# Altium integrated library Renesas Microcontroller R8C.IntLib: 628 symbols (part 18 of 33)
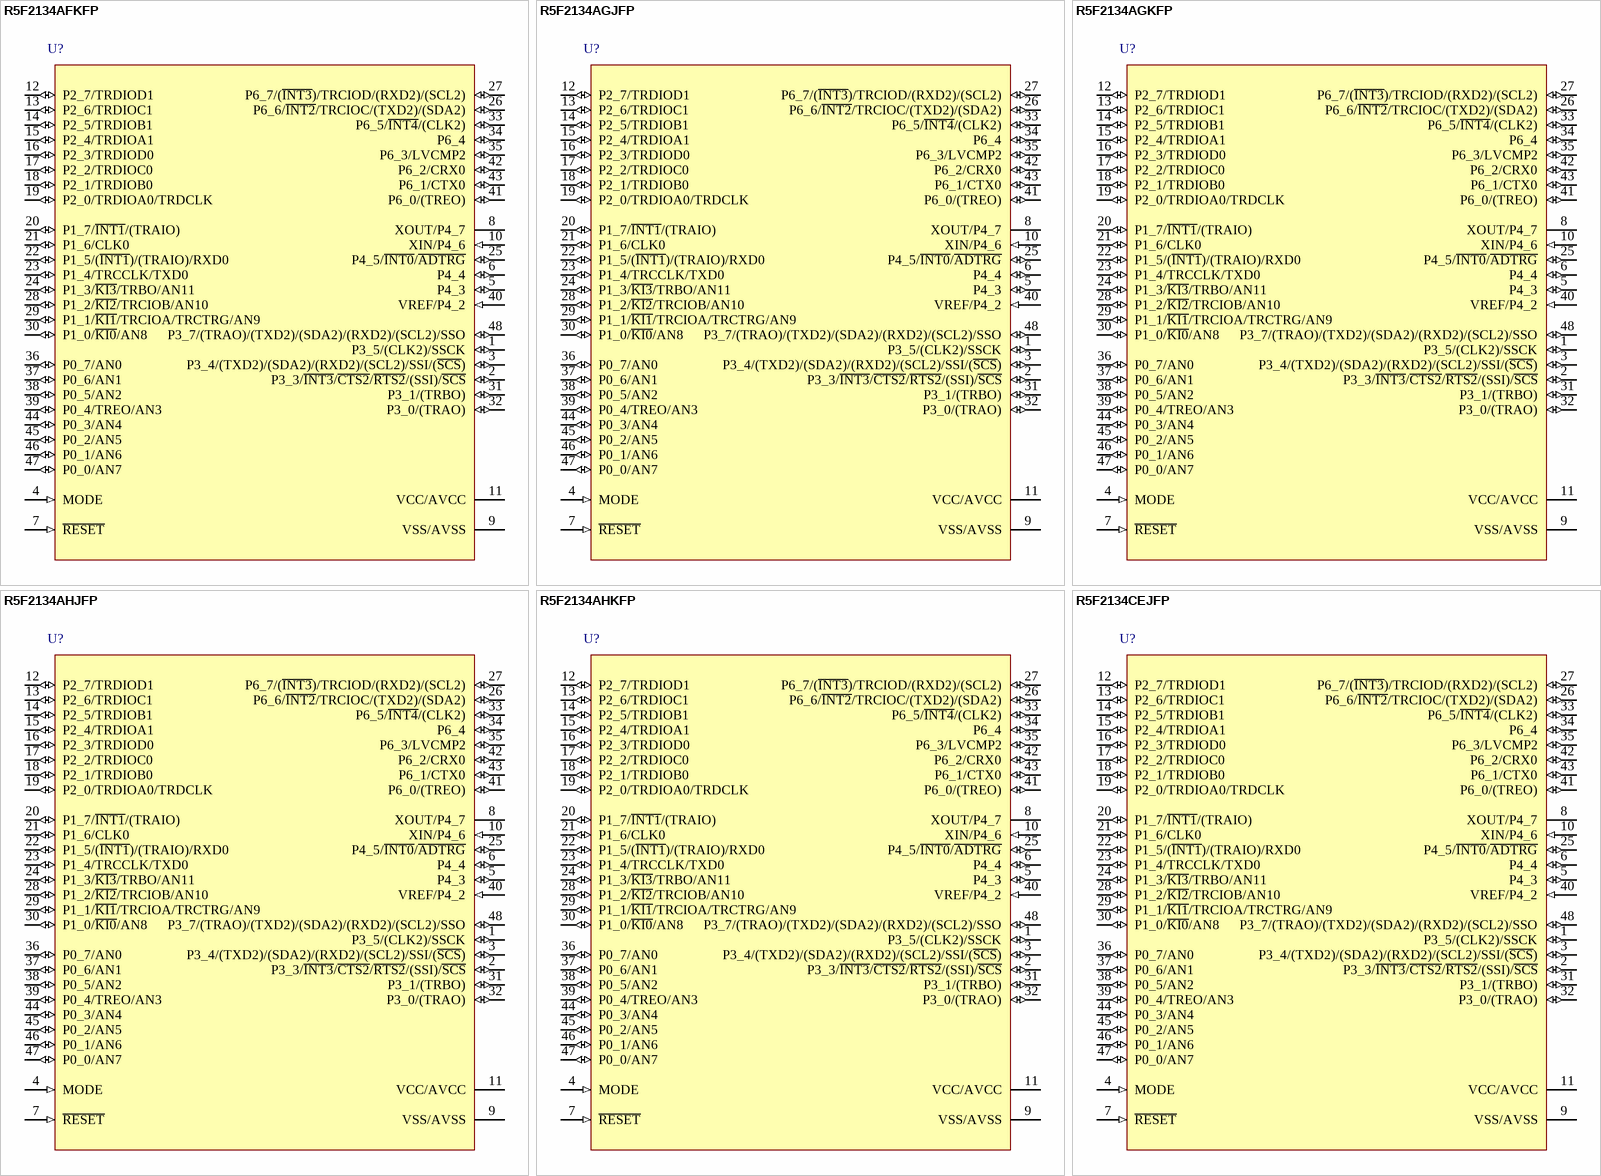
[diagram p133: symbols R5F2134AFKFP to R5F2134CEJFP]

## R5F2134AGJFP
designator U?
R8C/34G Group Single Chip 16-Bit CMOS MCU, 96K ROM + 1K x4 Data Flash, 8K RAM, J Version; Published: 30-Oct-2009; DatasheetVersion: Rev.0.10, Apr-2008; PackageVersion: Oct-2005; PackageReference: PLQP0048KB-A; Publisher: Altium Limited; PackageDescription: 48-Pin Plastic Low Profile QFP, 7 x 7 x 1.4 mm Body, 0.5 mm Pitch; Code_JEITA: P-LQFP48-7x7-0.50; Code_IPC: SQFP50P900X900-48; ComponentLink1Description: Manufacturer Link; ComponentLink1URL: http://sg.renesas.com/fmwk.jsp?cnt=r8c_family_landing.jsp&fp=/products/mpumcu/r8c_family/; ComponentLink2Description: Datasheet; ComponentLink2URL: http://documentation.renesas.com/eng/products/mpumcu/rej03b0246_r8c34ess.pdf; ComponentLink3Description: Packaging Specification; ComponentLink3URL: http://sg.renesas.com/media/products/common_info/package/pdf/ic/code/plqp0048kb_a.pdf
footprint PLQP0048KB-A_N (Shrink QFP, 48-Leads, Body 7x7mm, Pitch 0.5mm, IPC Medium Density)
footprint PLQP0048KB-A_L (Shrink QFP, 48-Leads, Body 7x7mm, Pitch 0.5mm, IPC High Density)
footprint PLQP0048KB-A_M (Shrink QFP, 48-Leads, Body 7x7mm, Pitch 0.5mm, IPC Low Density)
pins: 1 P3_5/(CLK2)/SSCK (io), 2 P3_3/~{INT3}/~{CTS2}/~{RTS2}/(SSI)/~{SCS} (io), 3 P3_4/(TXD2)/(SDA2)/(RXD2)/(SCL2)/SSI/(~{SCS}) (io), 4 MODE (in), 5 P4_3 (io), 6 P4_4 (io), 7 ~{RESET} (in), 8 XOUT/P4_7, 9 VSS/AVSS (power), 10 XIN/P4_6 (in), 11 VCC/AVCC (power), 12 P2_7/TRDIOD1 (io), 13 P2_6/TRDIOC1 (io), 14 P2_5/TRDIOB1 (io), 15 P2_4/TRDIOA1 (io), 16 P2_3/TRDIOD0 (io), 17 P2_2/TRDIOC0 (io), 18 P2_1/TRDIOB0 (io), 19 P2_0/TRDIOA0/TRDCLK (io), 20 P1_7/~{INT1}/(TRAIO) (io), 21 P1_6/CLK0 (io), 22 P1_5/(~{INT1})/(TRAIO)/RXD0 (io), 23 P1_4/TRCCLK/TXD0 (io), 24 P1_3/~{KI3}/TRBO/AN11 (io), 25 P4_5/~{INT0}/~{ADTRG} (io), 26 P6_6/~{INT2}/TRCIOC/(TXD2)/(SDA2) (io), 27 P6_7/(~{INT3})/TRCIOD/(RXD2)/(SCL2) (io), 28 P1_2/~{KI2}/TRCIOB/AN10 (io), 29 P1_1/~{KI1}/TRCIOA/TRCTRG/AN9 (io), 30 P1_0/~{KI0}/AN8 (io), 31 P3_1/(TRBO) (io), 32 P3_0/(TRAO) (io), 33 P6_5/~{INT4}/(CLK2) (io), 34 P6_4 (io), 35 P6_3/LVCMP2 (io), 36 P0_7/AN0 (io), 37 P0_6/AN1 (io), 38 P0_5/AN2 (io), 39 P0_4/TREO/AN3 (io), 40 VREF/P4_2 (in), 41 P6_0/(TREO) (io), 42 P6_2/CRX0 (io), 43 P6_1/CTX0 (io), 44 P0_3/AN4 (io), 45 P0_2/AN5 (io), 46 P0_1/AN6 (io), 47 P0_0/AN7 (io), 48 P3_7/(TRAO)/(TXD2)/(SDA2)/(RXD2)/(SCL2)/SSO (io)

## R5F2134AGKFP
designator U?
R8C/34G Group Single Chip 16-Bit CMOS MCU, 96K ROM + 1K x4 Data Flash, 8K RAM, K Version; Published: 30-Oct-2009; DatasheetVersion: Rev.0.10, Apr-2008; PackageVersion: Oct-2005; PackageReference: PLQP0048KB-A; Publisher: Altium Limited; PackageDescription: 48-Pin Plastic Low Profile QFP, 7 x 7 x 1.4 mm Body, 0.5 mm Pitch; Code_JEITA: P-LQFP48-7x7-0.50; Code_IPC: SQFP50P900X900-48; ComponentLink1Description: Manufacturer Link; ComponentLink1URL: http://sg.renesas.com/fmwk.jsp?cnt=r8c_family_landing.jsp&fp=/products/mpumcu/r8c_family/; ComponentLink2Description: Datasheet; ComponentLink2URL: http://documentation.renesas.com/eng/products/mpumcu/rej03b0246_r8c34ess.pdf; ComponentLink3Description: Packaging Specification; ComponentLink3URL: http://sg.renesas.com/media/products/common_info/package/pdf/ic/code/plqp0048kb_a.pdf
footprint PLQP0048KB-A_N (Shrink QFP, 48-Leads, Body 7x7mm, Pitch 0.5mm, IPC Medium Density)
footprint PLQP0048KB-A_L (Shrink QFP, 48-Leads, Body 7x7mm, Pitch 0.5mm, IPC High Density)
footprint PLQP0048KB-A_M (Shrink QFP, 48-Leads, Body 7x7mm, Pitch 0.5mm, IPC Low Density)
pins: 1 P3_5/(CLK2)/SSCK (io), 2 P3_3/~{INT3}/~{CTS2}/~{RTS2}/(SSI)/~{SCS} (io), 3 P3_4/(TXD2)/(SDA2)/(RXD2)/(SCL2)/SSI/(~{SCS}) (io), 4 MODE (in), 5 P4_3 (io), 6 P4_4 (io), 7 ~{RESET} (in), 8 XOUT/P4_7, 9 VSS/AVSS (power), 10 XIN/P4_6 (in), 11 VCC/AVCC (power), 12 P2_7/TRDIOD1 (io), 13 P2_6/TRDIOC1 (io), 14 P2_5/TRDIOB1 (io), 15 P2_4/TRDIOA1 (io), 16 P2_3/TRDIOD0 (io), 17 P2_2/TRDIOC0 (io), 18 P2_1/TRDIOB0 (io), 19 P2_0/TRDIOA0/TRDCLK (io), 20 P1_7/~{INT1}/(TRAIO) (io), 21 P1_6/CLK0 (io), 22 P1_5/(~{INT1})/(TRAIO)/RXD0 (io), 23 P1_4/TRCCLK/TXD0 (io), 24 P1_3/~{KI3}/TRBO/AN11 (io), 25 P4_5/~{INT0}/~{ADTRG} (io), 26 P6_6/~{INT2}/TRCIOC/(TXD2)/(SDA2) (io), 27 P6_7/(~{INT3})/TRCIOD/(RXD2)/(SCL2) (io), 28 P1_2/~{KI2}/TRCIOB/AN10 (io), 29 P1_1/~{KI1}/TRCIOA/TRCTRG/AN9 (io), 30 P1_0/~{KI0}/AN8 (io), 31 P3_1/(TRBO) (io), 32 P3_0/(TRAO) (io), 33 P6_5/~{INT4}/(CLK2) (io), 34 P6_4 (io), 35 P6_3/LVCMP2 (io), 36 P0_7/AN0 (io), 37 P0_6/AN1 (io), 38 P0_5/AN2 (io), 39 P0_4/TREO/AN3 (io), 40 VREF/P4_2 (in), 41 P6_0/(TREO) (io), 42 P6_2/CRX0 (io), 43 P6_1/CTX0 (io), 44 P0_3/AN4 (io), 45 P0_2/AN5 (io), 46 P0_1/AN6 (io), 47 P0_0/AN7 (io), 48 P3_7/(TRAO)/(TXD2)/(SDA2)/(RXD2)/(SCL2)/SSO (io)

## R5F2134AHJFP
designator U?
R8C/34H Group Single Chip 16-Bit CMOS MCU, 96K ROM, 8K RAM, J Version; Published: 30-Oct-2009; DatasheetVersion: Rev.0.10, Apr-2008; PackageVersion: Oct-2005; PackageReference: PLQP0048KB-A; Publisher: Altium Limited; PackageDescription: 48-Pin Plastic Low Profile QFP, 7 x 7 x 1.4 mm Body, 0.5 mm Pitch; Code_JEITA: P-LQFP48-7x7-0.50; Code_IPC: SQFP50P900X900-48; ComponentLink1Description: Manufacturer Link; ComponentLink1URL: http://sg.renesas.com/fmwk.jsp?cnt=r8c_family_landing.jsp&fp=/products/mpumcu/r8c_family/; ComponentLink2Description: Datasheet; ComponentLink2URL: http://documentation.renesas.com/eng/products/mpumcu/rej03b0246_r8c34ess.pdf; ComponentLink3Description: Packaging Specification; ComponentLink3URL: http://sg.renesas.com/media/products/common_info/package/pdf/ic/code/plqp0048kb_a.pdf
footprint PLQP0048KB-A_N (Shrink QFP, 48-Leads, Body 7x7mm, Pitch 0.5mm, IPC Medium Density)
footprint PLQP0048KB-A_L (Shrink QFP, 48-Leads, Body 7x7mm, Pitch 0.5mm, IPC High Density)
footprint PLQP0048KB-A_M (Shrink QFP, 48-Leads, Body 7x7mm, Pitch 0.5mm, IPC Low Density)
pins: 1 P3_5/(CLK2)/SSCK (io), 2 P3_3/~{INT3}/~{CTS2}/~{RTS2}/(SSI)/~{SCS} (io), 3 P3_4/(TXD2)/(SDA2)/(RXD2)/(SCL2)/SSI/(~{SCS}) (io), 4 MODE (in), 5 P4_3 (io), 6 P4_4 (io), 7 ~{RESET} (in), 8 XOUT/P4_7, 9 VSS/AVSS (power), 10 XIN/P4_6 (in), 11 VCC/AVCC (power), 12 P2_7/TRDIOD1 (io), 13 P2_6/TRDIOC1 (io), 14 P2_5/TRDIOB1 (io), 15 P2_4/TRDIOA1 (io), 16 P2_3/TRDIOD0 (io), 17 P2_2/TRDIOC0 (io), 18 P2_1/TRDIOB0 (io), 19 P2_0/TRDIOA0/TRDCLK (io), 20 P1_7/~{INT1}/(TRAIO) (io), 21 P1_6/CLK0 (io), 22 P1_5/(~{INT1})/(TRAIO)/RXD0 (io), 23 P1_4/TRCCLK/TXD0 (io), 24 P1_3/~{KI3}/TRBO/AN11 (io), 25 P4_5/~{INT0}/~{ADTRG} (io), 26 P6_6/~{INT2}/TRCIOC/(TXD2)/(SDA2) (io), 27 P6_7/(~{INT3})/TRCIOD/(RXD2)/(SCL2) (io), 28 P1_2/~{KI2}/TRCIOB/AN10 (io), 29 P1_1/~{KI1}/TRCIOA/TRCTRG/AN9 (io), 30 P1_0/~{KI0}/AN8 (io), 31 P3_1/(TRBO) (io), 32 P3_0/(TRAO) (io), 33 P6_5/~{INT4}/(CLK2) (io), 34 P6_4 (io), 35 P6_3/LVCMP2 (io), 36 P0_7/AN0 (io), 37 P0_6/AN1 (io), 38 P0_5/AN2 (io), 39 P0_4/TREO/AN3 (io), 40 VREF/P4_2 (in), 41 P6_0/(TREO) (io), 42 P6_2/CRX0 (io), 43 P6_1/CTX0 (io), 44 P0_3/AN4 (io), 45 P0_2/AN5 (io), 46 P0_1/AN6 (io), 47 P0_0/AN7 (io), 48 P3_7/(TRAO)/(TXD2)/(SDA2)/(RXD2)/(SCL2)/SSO (io)

## R5F2134AHKFP
designator U?
R8C/34H Group Single Chip 16-Bit CMOS MCU, 96K ROM, 8K RAM, K Version; Published: 30-Oct-2009; DatasheetVersion: Rev.0.10, Apr-2008; PackageVersion: Oct-2005; PackageReference: PLQP0048KB-A; Publisher: Altium Limited; PackageDescription: 48-Pin Plastic Low Profile QFP, 7 x 7 x 1.4 mm Body, 0.5 mm Pitch; Code_JEITA: P-LQFP48-7x7-0.50; Code_IPC: SQFP50P900X900-48; ComponentLink1Description: Manufacturer Link; ComponentLink1URL: http://sg.renesas.com/fmwk.jsp?cnt=r8c_family_landing.jsp&fp=/products/mpumcu/r8c_family/; ComponentLink2Description: Datasheet; ComponentLink2URL: http://documentation.renesas.com/eng/products/mpumcu/rej03b0246_r8c34ess.pdf; ComponentLink3Description: Packaging Specification; ComponentLink3URL: http://sg.renesas.com/media/products/common_info/package/pdf/ic/code/plqp0048kb_a.pdf
footprint PLQP0048KB-A_N (Shrink QFP, 48-Leads, Body 7x7mm, Pitch 0.5mm, IPC Medium Density)
footprint PLQP0048KB-A_L (Shrink QFP, 48-Leads, Body 7x7mm, Pitch 0.5mm, IPC High Density)
footprint PLQP0048KB-A_M (Shrink QFP, 48-Leads, Body 7x7mm, Pitch 0.5mm, IPC Low Density)
pins: 1 P3_5/(CLK2)/SSCK (io), 2 P3_3/~{INT3}/~{CTS2}/~{RTS2}/(SSI)/~{SCS} (io), 3 P3_4/(TXD2)/(SDA2)/(RXD2)/(SCL2)/SSI/(~{SCS}) (io), 4 MODE (in), 5 P4_3 (io), 6 P4_4 (io), 7 ~{RESET} (in), 8 XOUT/P4_7, 9 VSS/AVSS (power), 10 XIN/P4_6 (in), 11 VCC/AVCC (power), 12 P2_7/TRDIOD1 (io), 13 P2_6/TRDIOC1 (io), 14 P2_5/TRDIOB1 (io), 15 P2_4/TRDIOA1 (io), 16 P2_3/TRDIOD0 (io), 17 P2_2/TRDIOC0 (io), 18 P2_1/TRDIOB0 (io), 19 P2_0/TRDIOA0/TRDCLK (io), 20 P1_7/~{INT1}/(TRAIO) (io), 21 P1_6/CLK0 (io), 22 P1_5/(~{INT1})/(TRAIO)/RXD0 (io), 23 P1_4/TRCCLK/TXD0 (io), 24 P1_3/~{KI3}/TRBO/AN11 (io), 25 P4_5/~{INT0}/~{ADTRG} (io), 26 P6_6/~{INT2}/TRCIOC/(TXD2)/(SDA2) (io), 27 P6_7/(~{INT3})/TRCIOD/(RXD2)/(SCL2) (io), 28 P1_2/~{KI2}/TRCIOB/AN10 (io), 29 P1_1/~{KI1}/TRCIOA/TRCTRG/AN9 (io), 30 P1_0/~{KI0}/AN8 (io), 31 P3_1/(TRBO) (io), 32 P3_0/(TRAO) (io), 33 P6_5/~{INT4}/(CLK2) (io), 34 P6_4 (io), 35 P6_3/LVCMP2 (io), 36 P0_7/AN0 (io), 37 P0_6/AN1 (io), 38 P0_5/AN2 (io), 39 P0_4/TREO/AN3 (io), 40 VREF/P4_2 (in), 41 P6_0/(TREO) (io), 42 P6_2/CRX0 (io), 43 P6_1/CTX0 (io), 44 P0_3/AN4 (io), 45 P0_2/AN5 (io), 46 P0_1/AN6 (io), 47 P0_0/AN7 (io), 48 P3_7/(TRAO)/(TXD2)/(SDA2)/(RXD2)/(SCL2)/SSO (io)

## R5F2134CEJFP
designator U?
R8C/34E Group Single Chip 16-Bit CMOS MCU, 128K ROM + 1K x4 Data Flash, 10K RAM, J Version; Published: 30-Oct-2009; DatasheetVersion: Rev.0.10, Apr-2008; PackageVersion: Oct-2005; PackageReference: PLQP0048KB-A; Publisher: Altium Limited; PackageDescription: 48-Pin Plastic Low Profile QFP, 7 x 7 x 1.4 mm Body, 0.5 mm Pitch; Code_JEITA: P-LQFP48-7x7-0.50; Code_IPC: SQFP50P900X900-48; ComponentLink1Description: Manufacturer Link; ComponentLink1URL: http://sg.renesas.com/fmwk.jsp?cnt=r8c_family_landing.jsp&fp=/products/mpumcu/r8c_family/; ComponentLink2Description: Datasheet; ComponentLink2URL: http://documentation.renesas.com/eng/products/mpumcu/rej03b0246_r8c34ess.pdf; ComponentLink3Description: Packaging Specification; ComponentLink3URL: http://sg.renesas.com/media/products/common_info/package/pdf/ic/code/plqp0048kb_a.pdf
footprint PLQP0048KB-A_N (Shrink QFP, 48-Leads, Body 7x7mm, Pitch 0.5mm, IPC Medium Density)
footprint PLQP0048KB-A_L (Shrink QFP, 48-Leads, Body 7x7mm, Pitch 0.5mm, IPC High Density)
footprint PLQP0048KB-A_M (Shrink QFP, 48-Leads, Body 7x7mm, Pitch 0.5mm, IPC Low Density)
pins: 1 P3_5/(CLK2)/SSCK (io), 2 P3_3/~{INT3}/~{CTS2}/~{RTS2}/(SSI)/~{SCS} (io), 3 P3_4/(TXD2)/(SDA2)/(RXD2)/(SCL2)/SSI/(~{SCS}) (io), 4 MODE (in), 5 P4_3 (io), 6 P4_4 (io), 7 ~{RESET} (in), 8 XOUT/P4_7, 9 VSS/AVSS (power), 10 XIN/P4_6 (in), 11 VCC/AVCC (power), 12 P2_7/TRDIOD1 (io), 13 P2_6/TRDIOC1 (io), 14 P2_5/TRDIOB1 (io), 15 P2_4/TRDIOA1 (io), 16 P2_3/TRDIOD0 (io), 17 P2_2/TRDIOC0 (io), 18 P2_1/TRDIOB0 (io), 19 P2_0/TRDIOA0/TRDCLK (io), 20 P1_7/~{INT1}/(TRAIO) (io), 21 P1_6/CLK0 (io), 22 P1_5/(~{INT1})/(TRAIO)/RXD0 (io), 23 P1_4/TRCCLK/TXD0 (io), 24 P1_3/~{KI3}/TRBO/AN11 (io), 25 P4_5/~{INT0}/~{ADTRG} (io), 26 P6_6/~{INT2}/TRCIOC/(TXD2)/(SDA2) (io), 27 P6_7/(~{INT3})/TRCIOD/(RXD2)/(SCL2) (io), 28 P1_2/~{KI2}/TRCIOB/AN10 (io), 29 P1_1/~{KI1}/TRCIOA/TRCTRG/AN9 (io), 30 P1_0/~{KI0}/AN8 (io), 31 P3_1/(TRBO) (io), 32 P3_0/(TRAO) (io), 33 P6_5/~{INT4}/(CLK2) (io), 34 P6_4 (io), 35 P6_3/LVCMP2 (io), 36 P0_7/AN0 (io), 37 P0_6/AN1 (io), 38 P0_5/AN2 (io), 39 P0_4/TREO/AN3 (io), 40 VREF/P4_2 (in), 41 P6_0/(TREO) (io), 42 P6_2/CRX0 (io), 43 P6_1/CTX0 (io), 44 P0_3/AN4 (io), 45 P0_2/AN5 (io), 46 P0_1/AN6 (io), 47 P0_0/AN7 (io), 48 P3_7/(TRAO)/(TXD2)/(SDA2)/(RXD2)/(SCL2)/SSO (io)

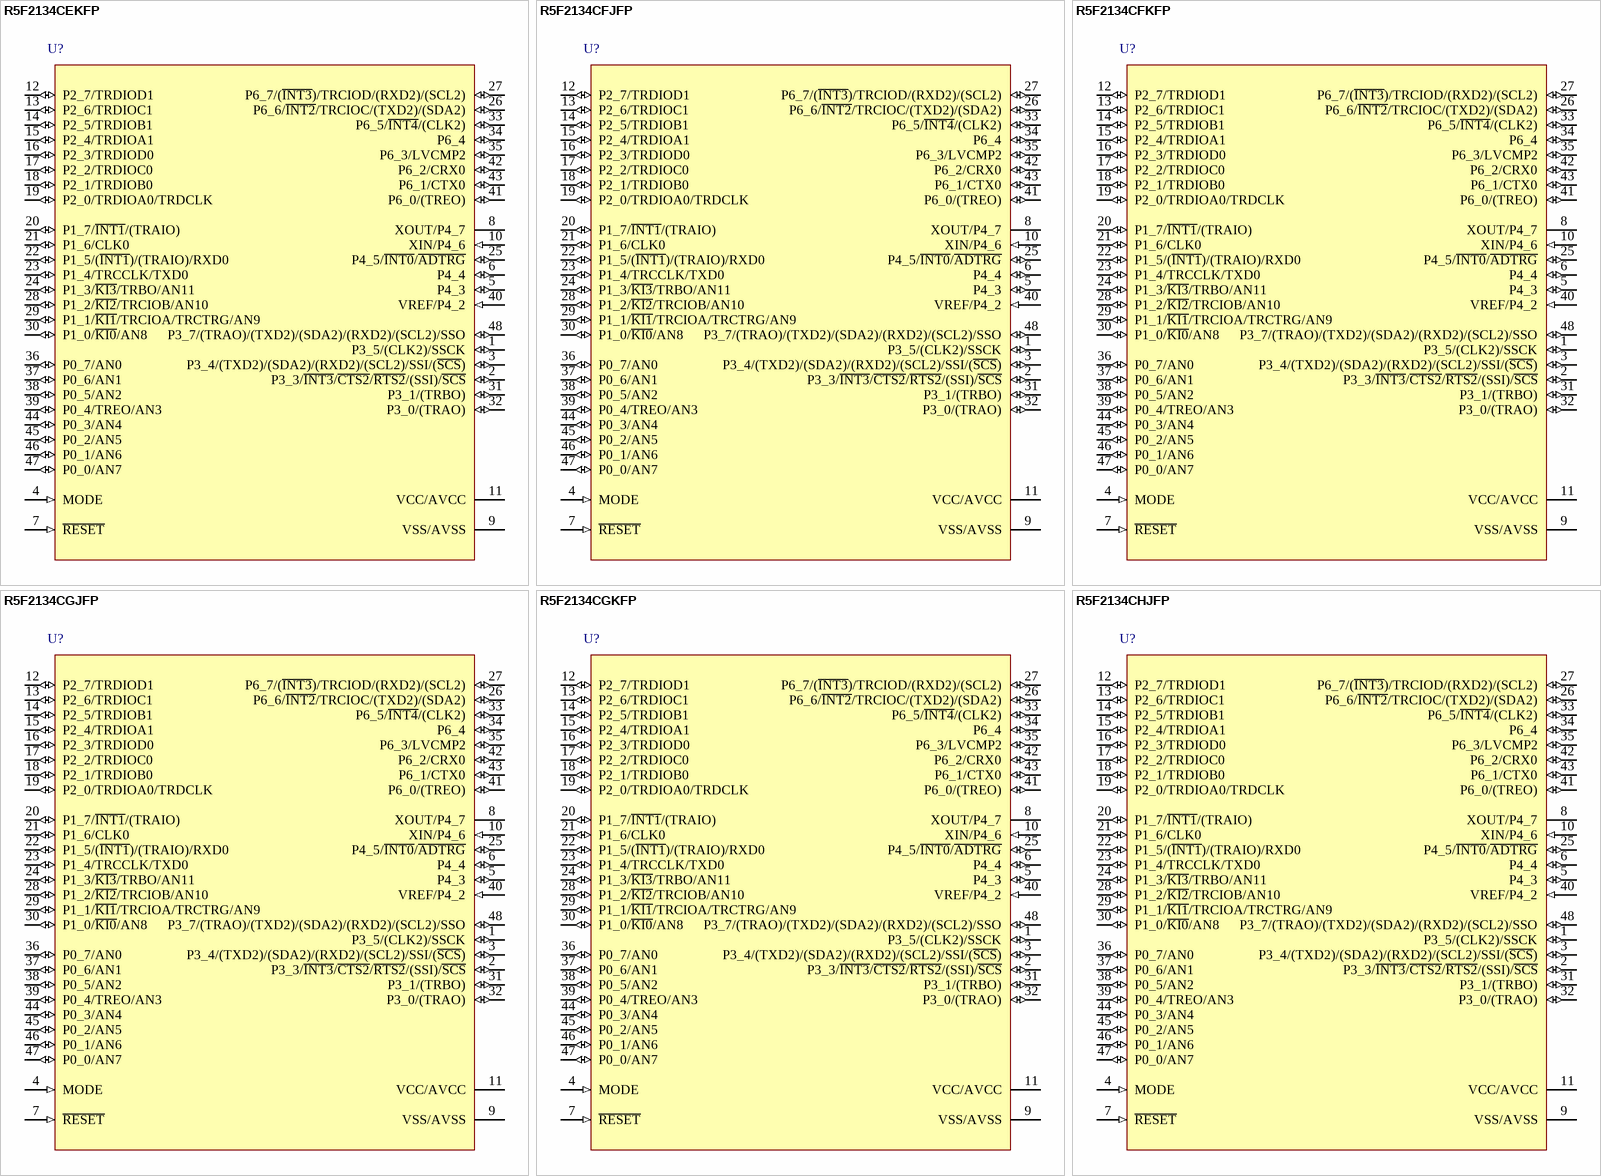
[diagram p61: symbols R5F2134CEKFP to R5F2134CHJFP]

## R5F2134CEKFP
designator U?
R8C/34E Group Single Chip 16-Bit CMOS MCU, 128K ROM + 1K x4 Data Flash, 10K RAM, K Version; Published: 30-Oct-2009; DatasheetVersion: Rev.0.10, Apr-2008; PackageVersion: Oct-2005; PackageReference: PLQP0048KB-A; Publisher: Altium Limited; PackageDescription: 48-Pin Plastic Low Profile QFP, 7 x 7 x 1.4 mm Body, 0.5 mm Pitch; Code_JEITA: P-LQFP48-7x7-0.50; Code_IPC: SQFP50P900X900-48; ComponentLink1Description: Manufacturer Link; ComponentLink1URL: http://sg.renesas.com/fmwk.jsp?cnt=r8c_family_landing.jsp&fp=/products/mpumcu/r8c_family/; ComponentLink2Description: Datasheet; ComponentLink2URL: http://documentation.renesas.com/eng/products/mpumcu/rej03b0246_r8c34ess.pdf; ComponentLink3Description: Packaging Specification; ComponentLink3URL: http://sg.renesas.com/media/products/common_info/package/pdf/ic/code/plqp0048kb_a.pdf
footprint PLQP0048KB-A_N (Shrink QFP, 48-Leads, Body 7x7mm, Pitch 0.5mm, IPC Medium Density)
footprint PLQP0048KB-A_L (Shrink QFP, 48-Leads, Body 7x7mm, Pitch 0.5mm, IPC High Density)
footprint PLQP0048KB-A_M (Shrink QFP, 48-Leads, Body 7x7mm, Pitch 0.5mm, IPC Low Density)
pins: 1 P3_5/(CLK2)/SSCK (io), 2 P3_3/~{INT3}/~{CTS2}/~{RTS2}/(SSI)/~{SCS} (io), 3 P3_4/(TXD2)/(SDA2)/(RXD2)/(SCL2)/SSI/(~{SCS}) (io), 4 MODE (in), 5 P4_3 (io), 6 P4_4 (io), 7 ~{RESET} (in), 8 XOUT/P4_7, 9 VSS/AVSS (power), 10 XIN/P4_6 (in), 11 VCC/AVCC (power), 12 P2_7/TRDIOD1 (io), 13 P2_6/TRDIOC1 (io), 14 P2_5/TRDIOB1 (io), 15 P2_4/TRDIOA1 (io), 16 P2_3/TRDIOD0 (io), 17 P2_2/TRDIOC0 (io), 18 P2_1/TRDIOB0 (io), 19 P2_0/TRDIOA0/TRDCLK (io), 20 P1_7/~{INT1}/(TRAIO) (io), 21 P1_6/CLK0 (io), 22 P1_5/(~{INT1})/(TRAIO)/RXD0 (io), 23 P1_4/TRCCLK/TXD0 (io), 24 P1_3/~{KI3}/TRBO/AN11 (io), 25 P4_5/~{INT0}/~{ADTRG} (io), 26 P6_6/~{INT2}/TRCIOC/(TXD2)/(SDA2) (io), 27 P6_7/(~{INT3})/TRCIOD/(RXD2)/(SCL2) (io), 28 P1_2/~{KI2}/TRCIOB/AN10 (io), 29 P1_1/~{KI1}/TRCIOA/TRCTRG/AN9 (io), 30 P1_0/~{KI0}/AN8 (io), 31 P3_1/(TRBO) (io), 32 P3_0/(TRAO) (io), 33 P6_5/~{INT4}/(CLK2) (io), 34 P6_4 (io), 35 P6_3/LVCMP2 (io), 36 P0_7/AN0 (io), 37 P0_6/AN1 (io), 38 P0_5/AN2 (io), 39 P0_4/TREO/AN3 (io), 40 VREF/P4_2 (in), 41 P6_0/(TREO) (io), 42 P6_2/CRX0 (io), 43 P6_1/CTX0 (io), 44 P0_3/AN4 (io), 45 P0_2/AN5 (io), 46 P0_1/AN6 (io), 47 P0_0/AN7 (io), 48 P3_7/(TRAO)/(TXD2)/(SDA2)/(RXD2)/(SCL2)/SSO (io)

## R5F2134CFJFP
designator U?
R8C/34F Group Single Chip 16-Bit CMOS MCU, 128K ROM, 10K RAM, J Version; Published: 30-Oct-2009; DatasheetVersion: Rev.0.10, Apr-2008; PackageVersion: Oct-2005; PackageReference: PLQP0048KB-A; Publisher: Altium Limited; PackageDescription: 48-Pin Plastic Low Profile QFP, 7 x 7 x 1.4 mm Body, 0.5 mm Pitch; Code_JEITA: P-LQFP48-7x7-0.50; Code_IPC: SQFP50P900X900-48; ComponentLink1Description: Manufacturer Link; ComponentLink1URL: http://sg.renesas.com/fmwk.jsp?cnt=r8c_family_landing.jsp&fp=/products/mpumcu/r8c_family/; ComponentLink2Description: Datasheet; ComponentLink2URL: http://documentation.renesas.com/eng/products/mpumcu/rej03b0246_r8c34ess.pdf; ComponentLink3Description: Packaging Specification; ComponentLink3URL: http://sg.renesas.com/media/products/common_info/package/pdf/ic/code/plqp0048kb_a.pdf
footprint PLQP0048KB-A_N (Shrink QFP, 48-Leads, Body 7x7mm, Pitch 0.5mm, IPC Medium Density)
footprint PLQP0048KB-A_L (Shrink QFP, 48-Leads, Body 7x7mm, Pitch 0.5mm, IPC High Density)
footprint PLQP0048KB-A_M (Shrink QFP, 48-Leads, Body 7x7mm, Pitch 0.5mm, IPC Low Density)
pins: 1 P3_5/(CLK2)/SSCK (io), 2 P3_3/~{INT3}/~{CTS2}/~{RTS2}/(SSI)/~{SCS} (io), 3 P3_4/(TXD2)/(SDA2)/(RXD2)/(SCL2)/SSI/(~{SCS}) (io), 4 MODE (in), 5 P4_3 (io), 6 P4_4 (io), 7 ~{RESET} (in), 8 XOUT/P4_7, 9 VSS/AVSS (power), 10 XIN/P4_6 (in), 11 VCC/AVCC (power), 12 P2_7/TRDIOD1 (io), 13 P2_6/TRDIOC1 (io), 14 P2_5/TRDIOB1 (io), 15 P2_4/TRDIOA1 (io), 16 P2_3/TRDIOD0 (io), 17 P2_2/TRDIOC0 (io), 18 P2_1/TRDIOB0 (io), 19 P2_0/TRDIOA0/TRDCLK (io), 20 P1_7/~{INT1}/(TRAIO) (io), 21 P1_6/CLK0 (io), 22 P1_5/(~{INT1})/(TRAIO)/RXD0 (io), 23 P1_4/TRCCLK/TXD0 (io), 24 P1_3/~{KI3}/TRBO/AN11 (io), 25 P4_5/~{INT0}/~{ADTRG} (io), 26 P6_6/~{INT2}/TRCIOC/(TXD2)/(SDA2) (io), 27 P6_7/(~{INT3})/TRCIOD/(RXD2)/(SCL2) (io), 28 P1_2/~{KI2}/TRCIOB/AN10 (io), 29 P1_1/~{KI1}/TRCIOA/TRCTRG/AN9 (io), 30 P1_0/~{KI0}/AN8 (io), 31 P3_1/(TRBO) (io), 32 P3_0/(TRAO) (io), 33 P6_5/~{INT4}/(CLK2) (io), 34 P6_4 (io), 35 P6_3/LVCMP2 (io), 36 P0_7/AN0 (io), 37 P0_6/AN1 (io), 38 P0_5/AN2 (io), 39 P0_4/TREO/AN3 (io), 40 VREF/P4_2 (in), 41 P6_0/(TREO) (io), 42 P6_2/CRX0 (io), 43 P6_1/CTX0 (io), 44 P0_3/AN4 (io), 45 P0_2/AN5 (io), 46 P0_1/AN6 (io), 47 P0_0/AN7 (io), 48 P3_7/(TRAO)/(TXD2)/(SDA2)/(RXD2)/(SCL2)/SSO (io)

## R5F2134CFKFP
designator U?
R8C/34F Group Single Chip 16-Bit CMOS MCU, 128K ROM, 10K RAM, K Version; Published: 30-Oct-2009; DatasheetVersion: Rev.0.10, Apr-2008; PackageVersion: Oct-2005; PackageReference: PLQP0048KB-A; Publisher: Altium Limited; PackageDescription: 48-Pin Plastic Low Profile QFP, 7 x 7 x 1.4 mm Body, 0.5 mm Pitch; Code_JEITA: P-LQFP48-7x7-0.50; Code_IPC: SQFP50P900X900-48; ComponentLink1Description: Manufacturer Link; ComponentLink1URL: http://sg.renesas.com/fmwk.jsp?cnt=r8c_family_landing.jsp&fp=/products/mpumcu/r8c_family/; ComponentLink2Description: Datasheet; ComponentLink2URL: http://documentation.renesas.com/eng/products/mpumcu/rej03b0246_r8c34ess.pdf; ComponentLink3Description: Packaging Specification; ComponentLink3URL: http://sg.renesas.com/media/products/common_info/package/pdf/ic/code/plqp0048kb_a.pdf
footprint PLQP0048KB-A_N (Shrink QFP, 48-Leads, Body 7x7mm, Pitch 0.5mm, IPC Medium Density)
footprint PLQP0048KB-A_L (Shrink QFP, 48-Leads, Body 7x7mm, Pitch 0.5mm, IPC High Density)
footprint PLQP0048KB-A_M (Shrink QFP, 48-Leads, Body 7x7mm, Pitch 0.5mm, IPC Low Density)
pins: 1 P3_5/(CLK2)/SSCK (io), 2 P3_3/~{INT3}/~{CTS2}/~{RTS2}/(SSI)/~{SCS} (io), 3 P3_4/(TXD2)/(SDA2)/(RXD2)/(SCL2)/SSI/(~{SCS}) (io), 4 MODE (in), 5 P4_3 (io), 6 P4_4 (io), 7 ~{RESET} (in), 8 XOUT/P4_7, 9 VSS/AVSS (power), 10 XIN/P4_6 (in), 11 VCC/AVCC (power), 12 P2_7/TRDIOD1 (io), 13 P2_6/TRDIOC1 (io), 14 P2_5/TRDIOB1 (io), 15 P2_4/TRDIOA1 (io), 16 P2_3/TRDIOD0 (io), 17 P2_2/TRDIOC0 (io), 18 P2_1/TRDIOB0 (io), 19 P2_0/TRDIOA0/TRDCLK (io), 20 P1_7/~{INT1}/(TRAIO) (io), 21 P1_6/CLK0 (io), 22 P1_5/(~{INT1})/(TRAIO)/RXD0 (io), 23 P1_4/TRCCLK/TXD0 (io), 24 P1_3/~{KI3}/TRBO/AN11 (io), 25 P4_5/~{INT0}/~{ADTRG} (io), 26 P6_6/~{INT2}/TRCIOC/(TXD2)/(SDA2) (io), 27 P6_7/(~{INT3})/TRCIOD/(RXD2)/(SCL2) (io), 28 P1_2/~{KI2}/TRCIOB/AN10 (io), 29 P1_1/~{KI1}/TRCIOA/TRCTRG/AN9 (io), 30 P1_0/~{KI0}/AN8 (io), 31 P3_1/(TRBO) (io), 32 P3_0/(TRAO) (io), 33 P6_5/~{INT4}/(CLK2) (io), 34 P6_4 (io), 35 P6_3/LVCMP2 (io), 36 P0_7/AN0 (io), 37 P0_6/AN1 (io), 38 P0_5/AN2 (io), 39 P0_4/TREO/AN3 (io), 40 VREF/P4_2 (in), 41 P6_0/(TREO) (io), 42 P6_2/CRX0 (io), 43 P6_1/CTX0 (io), 44 P0_3/AN4 (io), 45 P0_2/AN5 (io), 46 P0_1/AN6 (io), 47 P0_0/AN7 (io), 48 P3_7/(TRAO)/(TXD2)/(SDA2)/(RXD2)/(SCL2)/SSO (io)

## R5F2134CGJFP
designator U?
R8C/34G Group Single Chip 16-Bit CMOS MCU, 128K ROM + 1K x4 Data Flash, 10K RAM, J Version; Published: 30-Oct-2009; DatasheetVersion: Rev.0.10, Apr-2008; PackageVersion: Oct-2005; PackageReference: PLQP0048KB-A; Publisher: Altium Limited; PackageDescription: 48-Pin Plastic Low Profile QFP, 7 x 7 x 1.4 mm Body, 0.5 mm Pitch; Code_JEITA: P-LQFP48-7x7-0.50; Code_IPC: SQFP50P900X900-48; ComponentLink1Description: Manufacturer Link; ComponentLink1URL: http://sg.renesas.com/fmwk.jsp?cnt=r8c_family_landing.jsp&fp=/products/mpumcu/r8c_family/; ComponentLink2Description: Datasheet; ComponentLink2URL: http://documentation.renesas.com/eng/products/mpumcu/rej03b0246_r8c34ess.pdf; ComponentLink3Description: Packaging Specification; ComponentLink3URL: http://sg.renesas.com/media/products/common_info/package/pdf/ic/code/plqp0048kb_a.pdf
footprint PLQP0048KB-A_N (Shrink QFP, 48-Leads, Body 7x7mm, Pitch 0.5mm, IPC Medium Density)
footprint PLQP0048KB-A_L (Shrink QFP, 48-Leads, Body 7x7mm, Pitch 0.5mm, IPC High Density)
footprint PLQP0048KB-A_M (Shrink QFP, 48-Leads, Body 7x7mm, Pitch 0.5mm, IPC Low Density)
pins: 1 P3_5/(CLK2)/SSCK (io), 2 P3_3/~{INT3}/~{CTS2}/~{RTS2}/(SSI)/~{SCS} (io), 3 P3_4/(TXD2)/(SDA2)/(RXD2)/(SCL2)/SSI/(~{SCS}) (io), 4 MODE (in), 5 P4_3 (io), 6 P4_4 (io), 7 ~{RESET} (in), 8 XOUT/P4_7, 9 VSS/AVSS (power), 10 XIN/P4_6 (in), 11 VCC/AVCC (power), 12 P2_7/TRDIOD1 (io), 13 P2_6/TRDIOC1 (io), 14 P2_5/TRDIOB1 (io), 15 P2_4/TRDIOA1 (io), 16 P2_3/TRDIOD0 (io), 17 P2_2/TRDIOC0 (io), 18 P2_1/TRDIOB0 (io), 19 P2_0/TRDIOA0/TRDCLK (io), 20 P1_7/~{INT1}/(TRAIO) (io), 21 P1_6/CLK0 (io), 22 P1_5/(~{INT1})/(TRAIO)/RXD0 (io), 23 P1_4/TRCCLK/TXD0 (io), 24 P1_3/~{KI3}/TRBO/AN11 (io), 25 P4_5/~{INT0}/~{ADTRG} (io), 26 P6_6/~{INT2}/TRCIOC/(TXD2)/(SDA2) (io), 27 P6_7/(~{INT3})/TRCIOD/(RXD2)/(SCL2) (io), 28 P1_2/~{KI2}/TRCIOB/AN10 (io), 29 P1_1/~{KI1}/TRCIOA/TRCTRG/AN9 (io), 30 P1_0/~{KI0}/AN8 (io), 31 P3_1/(TRBO) (io), 32 P3_0/(TRAO) (io), 33 P6_5/~{INT4}/(CLK2) (io), 34 P6_4 (io), 35 P6_3/LVCMP2 (io), 36 P0_7/AN0 (io), 37 P0_6/AN1 (io), 38 P0_5/AN2 (io), 39 P0_4/TREO/AN3 (io), 40 VREF/P4_2 (in), 41 P6_0/(TREO) (io), 42 P6_2/CRX0 (io), 43 P6_1/CTX0 (io), 44 P0_3/AN4 (io), 45 P0_2/AN5 (io), 46 P0_1/AN6 (io), 47 P0_0/AN7 (io), 48 P3_7/(TRAO)/(TXD2)/(SDA2)/(RXD2)/(SCL2)/SSO (io)

## R5F2134CGKFP
designator U?
R8C/34G Group Single Chip 16-Bit CMOS MCU, 128K ROM + 1K x4 Data Flash, 10K RAM, K Version; Published: 30-Oct-2009; DatasheetVersion: Rev.0.10, Apr-2008; PackageVersion: Oct-2005; PackageReference: PLQP0048KB-A; Publisher: Altium Limited; PackageDescription: 48-Pin Plastic Low Profile QFP, 7 x 7 x 1.4 mm Body, 0.5 mm Pitch; Code_JEITA: P-LQFP48-7x7-0.50; Code_IPC: SQFP50P900X900-48; ComponentLink1Description: Manufacturer Link; ComponentLink1URL: http://sg.renesas.com/fmwk.jsp?cnt=r8c_family_landing.jsp&fp=/products/mpumcu/r8c_family/; ComponentLink2Description: Datasheet; ComponentLink2URL: http://documentation.renesas.com/eng/products/mpumcu/rej03b0246_r8c34ess.pdf; ComponentLink3Description: Packaging Specification; ComponentLink3URL: http://sg.renesas.com/media/products/common_info/package/pdf/ic/code/plqp0048kb_a.pdf
footprint PLQP0048KB-A_N (Shrink QFP, 48-Leads, Body 7x7mm, Pitch 0.5mm, IPC Medium Density)
footprint PLQP0048KB-A_L (Shrink QFP, 48-Leads, Body 7x7mm, Pitch 0.5mm, IPC High Density)
footprint PLQP0048KB-A_M (Shrink QFP, 48-Leads, Body 7x7mm, Pitch 0.5mm, IPC Low Density)
pins: 1 P3_5/(CLK2)/SSCK (io), 2 P3_3/~{INT3}/~{CTS2}/~{RTS2}/(SSI)/~{SCS} (io), 3 P3_4/(TXD2)/(SDA2)/(RXD2)/(SCL2)/SSI/(~{SCS}) (io), 4 MODE (in), 5 P4_3 (io), 6 P4_4 (io), 7 ~{RESET} (in), 8 XOUT/P4_7, 9 VSS/AVSS (power), 10 XIN/P4_6 (in), 11 VCC/AVCC (power), 12 P2_7/TRDIOD1 (io), 13 P2_6/TRDIOC1 (io), 14 P2_5/TRDIOB1 (io), 15 P2_4/TRDIOA1 (io), 16 P2_3/TRDIOD0 (io), 17 P2_2/TRDIOC0 (io), 18 P2_1/TRDIOB0 (io), 19 P2_0/TRDIOA0/TRDCLK (io), 20 P1_7/~{INT1}/(TRAIO) (io), 21 P1_6/CLK0 (io), 22 P1_5/(~{INT1})/(TRAIO)/RXD0 (io), 23 P1_4/TRCCLK/TXD0 (io), 24 P1_3/~{KI3}/TRBO/AN11 (io), 25 P4_5/~{INT0}/~{ADTRG} (io), 26 P6_6/~{INT2}/TRCIOC/(TXD2)/(SDA2) (io), 27 P6_7/(~{INT3})/TRCIOD/(RXD2)/(SCL2) (io), 28 P1_2/~{KI2}/TRCIOB/AN10 (io), 29 P1_1/~{KI1}/TRCIOA/TRCTRG/AN9 (io), 30 P1_0/~{KI0}/AN8 (io), 31 P3_1/(TRBO) (io), 32 P3_0/(TRAO) (io), 33 P6_5/~{INT4}/(CLK2) (io), 34 P6_4 (io), 35 P6_3/LVCMP2 (io), 36 P0_7/AN0 (io), 37 P0_6/AN1 (io), 38 P0_5/AN2 (io), 39 P0_4/TREO/AN3 (io), 40 VREF/P4_2 (in), 41 P6_0/(TREO) (io), 42 P6_2/CRX0 (io), 43 P6_1/CTX0 (io), 44 P0_3/AN4 (io), 45 P0_2/AN5 (io), 46 P0_1/AN6 (io), 47 P0_0/AN7 (io), 48 P3_7/(TRAO)/(TXD2)/(SDA2)/(RXD2)/(SCL2)/SSO (io)

## R5F2134CHJFP
designator U?
R8C/34H Group Single Chip 16-Bit CMOS MCU, 128K ROM, 10K RAM, J Version; Published: 30-Oct-2009; DatasheetVersion: Rev.0.10, Apr-2008; PackageVersion: Oct-2005; PackageReference: PLQP0048KB-A; Publisher: Altium Limited; PackageDescription: 48-Pin Plastic Low Profile QFP, 7 x 7 x 1.4 mm Body, 0.5 mm Pitch; Code_JEITA: P-LQFP48-7x7-0.50; Code_IPC: SQFP50P900X900-48; ComponentLink1Description: Manufacturer Link; ComponentLink1URL: http://sg.renesas.com/fmwk.jsp?cnt=r8c_family_landing.jsp&fp=/products/mpumcu/r8c_family/; ComponentLink2Description: Datasheet; ComponentLink2URL: http://documentation.renesas.com/eng/products/mpumcu/rej03b0246_r8c34ess.pdf; ComponentLink3Description: Packaging Specification; ComponentLink3URL: http://sg.renesas.com/media/products/common_info/package/pdf/ic/code/plqp0048kb_a.pdf
footprint PLQP0048KB-A_N (Shrink QFP, 48-Leads, Body 7x7mm, Pitch 0.5mm, IPC Medium Density)
footprint PLQP0048KB-A_L (Shrink QFP, 48-Leads, Body 7x7mm, Pitch 0.5mm, IPC High Density)
footprint PLQP0048KB-A_M (Shrink QFP, 48-Leads, Body 7x7mm, Pitch 0.5mm, IPC Low Density)
pins: 1 P3_5/(CLK2)/SSCK (io), 2 P3_3/~{INT3}/~{CTS2}/~{RTS2}/(SSI)/~{SCS} (io), 3 P3_4/(TXD2)/(SDA2)/(RXD2)/(SCL2)/SSI/(~{SCS}) (io), 4 MODE (in), 5 P4_3 (io), 6 P4_4 (io), 7 ~{RESET} (in), 8 XOUT/P4_7, 9 VSS/AVSS (power), 10 XIN/P4_6 (in), 11 VCC/AVCC (power), 12 P2_7/TRDIOD1 (io), 13 P2_6/TRDIOC1 (io), 14 P2_5/TRDIOB1 (io), 15 P2_4/TRDIOA1 (io), 16 P2_3/TRDIOD0 (io), 17 P2_2/TRDIOC0 (io), 18 P2_1/TRDIOB0 (io), 19 P2_0/TRDIOA0/TRDCLK (io), 20 P1_7/~{INT1}/(TRAIO) (io), 21 P1_6/CLK0 (io), 22 P1_5/(~{INT1})/(TRAIO)/RXD0 (io), 23 P1_4/TRCCLK/TXD0 (io), 24 P1_3/~{KI3}/TRBO/AN11 (io), 25 P4_5/~{INT0}/~{ADTRG} (io), 26 P6_6/~{INT2}/TRCIOC/(TXD2)/(SDA2) (io), 27 P6_7/(~{INT3})/TRCIOD/(RXD2)/(SCL2) (io), 28 P1_2/~{KI2}/TRCIOB/AN10 (io), 29 P1_1/~{KI1}/TRCIOA/TRCTRG/AN9 (io), 30 P1_0/~{KI0}/AN8 (io), 31 P3_1/(TRBO) (io), 32 P3_0/(TRAO) (io), 33 P6_5/~{INT4}/(CLK2) (io), 34 P6_4 (io), 35 P6_3/LVCMP2 (io), 36 P0_7/AN0 (io), 37 P0_6/AN1 (io), 38 P0_5/AN2 (io), 39 P0_4/TREO/AN3 (io), 40 VREF/P4_2 (in), 41 P6_0/(TREO) (io), 42 P6_2/CRX0 (io), 43 P6_1/CTX0 (io), 44 P0_3/AN4 (io), 45 P0_2/AN5 (io), 46 P0_1/AN6 (io), 47 P0_0/AN7 (io), 48 P3_7/(TRAO)/(TXD2)/(SDA2)/(RXD2)/(SCL2)/SSO (io)

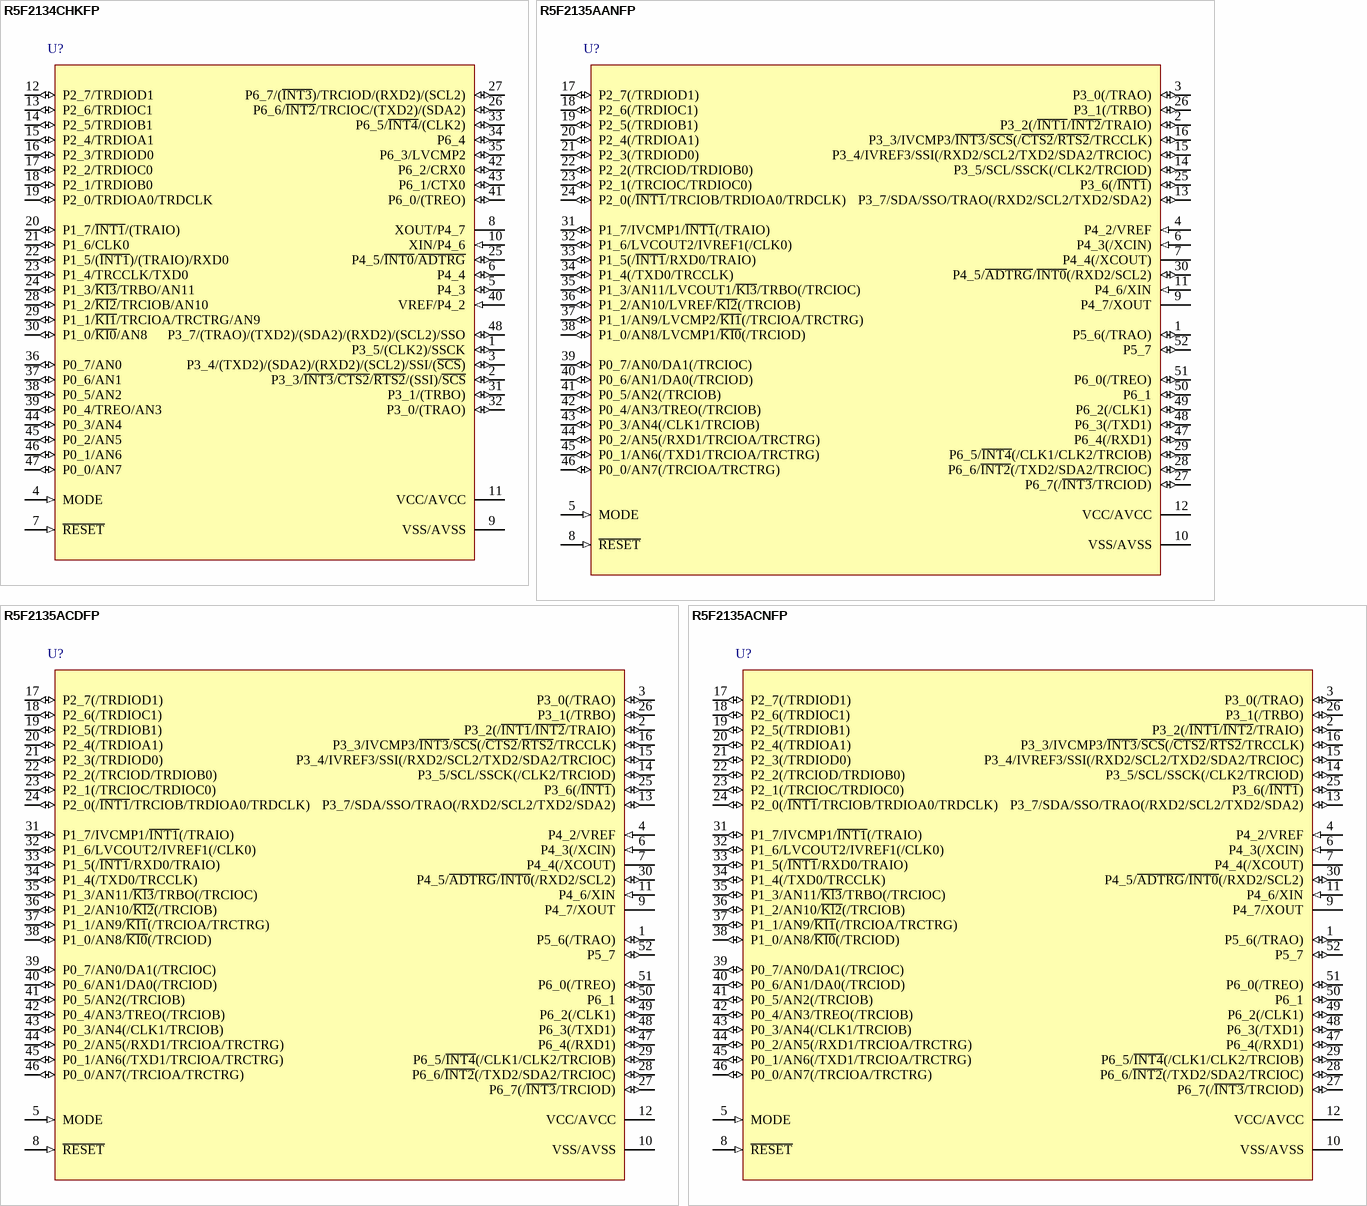
[diagram p62: symbols R5F2134CHKFP to R5F2135ACNFP]

## R5F2134CHKFP
designator U?
R8C/34H Group Single Chip 16-Bit CMOS MCU, 128K ROM, 10K RAM, K Version; Published: 30-Oct-2009; DatasheetVersion: Rev.0.10, Apr-2008; PackageVersion: Oct-2005; PackageReference: PLQP0048KB-A; Publisher: Altium Limited; PackageDescription: 48-Pin Plastic Low Profile QFP, 7 x 7 x 1.4 mm Body, 0.5 mm Pitch; Code_JEITA: P-LQFP48-7x7-0.50; Code_IPC: SQFP50P900X900-48; ComponentLink1Description: Manufacturer Link; ComponentLink1URL: http://sg.renesas.com/fmwk.jsp?cnt=r8c_family_landing.jsp&fp=/products/mpumcu/r8c_family/; ComponentLink2Description: Datasheet; ComponentLink2URL: http://documentation.renesas.com/eng/products/mpumcu/rej03b0246_r8c34ess.pdf; ComponentLink3Description: Packaging Specification; ComponentLink3URL: http://sg.renesas.com/media/products/common_info/package/pdf/ic/code/plqp0048kb_a.pdf
footprint PLQP0048KB-A_N (Shrink QFP, 48-Leads, Body 7x7mm, Pitch 0.5mm, IPC Medium Density)
footprint PLQP0048KB-A_L (Shrink QFP, 48-Leads, Body 7x7mm, Pitch 0.5mm, IPC High Density)
footprint PLQP0048KB-A_M (Shrink QFP, 48-Leads, Body 7x7mm, Pitch 0.5mm, IPC Low Density)
pins: 1 P3_5/(CLK2)/SSCK (io), 2 P3_3/~{INT3}/~{CTS2}/~{RTS2}/(SSI)/~{SCS} (io), 3 P3_4/(TXD2)/(SDA2)/(RXD2)/(SCL2)/SSI/(~{SCS}) (io), 4 MODE (in), 5 P4_3 (io), 6 P4_4 (io), 7 ~{RESET} (in), 8 XOUT/P4_7, 9 VSS/AVSS (power), 10 XIN/P4_6 (in), 11 VCC/AVCC (power), 12 P2_7/TRDIOD1 (io), 13 P2_6/TRDIOC1 (io), 14 P2_5/TRDIOB1 (io), 15 P2_4/TRDIOA1 (io), 16 P2_3/TRDIOD0 (io), 17 P2_2/TRDIOC0 (io), 18 P2_1/TRDIOB0 (io), 19 P2_0/TRDIOA0/TRDCLK (io), 20 P1_7/~{INT1}/(TRAIO) (io), 21 P1_6/CLK0 (io), 22 P1_5/(~{INT1})/(TRAIO)/RXD0 (io), 23 P1_4/TRCCLK/TXD0 (io), 24 P1_3/~{KI3}/TRBO/AN11 (io), 25 P4_5/~{INT0}/~{ADTRG} (io), 26 P6_6/~{INT2}/TRCIOC/(TXD2)/(SDA2) (io), 27 P6_7/(~{INT3})/TRCIOD/(RXD2)/(SCL2) (io), 28 P1_2/~{KI2}/TRCIOB/AN10 (io), 29 P1_1/~{KI1}/TRCIOA/TRCTRG/AN9 (io), 30 P1_0/~{KI0}/AN8 (io), 31 P3_1/(TRBO) (io), 32 P3_0/(TRAO) (io), 33 P6_5/~{INT4}/(CLK2) (io), 34 P6_4 (io), 35 P6_3/LVCMP2 (io), 36 P0_7/AN0 (io), 37 P0_6/AN1 (io), 38 P0_5/AN2 (io), 39 P0_4/TREO/AN3 (io), 40 VREF/P4_2 (in), 41 P6_0/(TREO) (io), 42 P6_2/CRX0 (io), 43 P6_1/CTX0 (io), 44 P0_3/AN4 (io), 45 P0_2/AN5 (io), 46 P0_1/AN6 (io), 47 P0_0/AN7 (io), 48 P3_7/(TRAO)/(TXD2)/(SDA2)/(RXD2)/(SCL2)/SSO (io)

## R5F2135AANFP
designator U?
R8C/35A Group Single Chip 16-Bit CMOS MCU, 96K + 4K ROM, 8K RAM, N Version; Published: 17-Feb-2010; DatasheetVersion: Rev.1.00, Sep-2009; PackageVersion: Nov-2007; PackageReference: PLQP0052JA-A; Publisher: Altium Limited; PackageDescription: 52-Pin Plastic Low Profile QFP, 10 x 10 x 1.4 mm Body, 0.65 mm Pitch; Code_JEITA: P-LQFP52-10x10-0.65; ComponentLink1Description: Manufacturer Link; ComponentLink1URL: http://sg.renesas.com/fmwk.jsp?cnt=r8c_family_landing.jsp&fp=/products/mpumcu/r8c_family/; ComponentLink2Description: Datasheet; ComponentLink2URL: http://documentation.renesas.com/eng/products/mpumcu/rej03b0225_r8c35ads.pdf; ComponentLink3Description: Packaging Specification; ComponentLink3URL: http://sg.renesas.com/media/products/common_info/package/pdf/ic/code/plqp0052ja_a.pdf
footprint PLQP0052JA-A_N (QFP, 52-Leads, Body 10x10mm, Pitch 0.65mm, IPC Medium Density)
footprint PLQP0052JA-A_L (QFP, 52-Leads, Body 10x10mm, Pitch 0.65mm, IPC High Density)
footprint PLQP0052JA-A_M (QFP, 52-Leads, Body 10x10mm, Pitch 0.65mm, IPC Low Density)
pins: 1 P5_6(/TRAO) (io), 2 P3_2(/~{INT1}/~{INT2}/TRAIO) (io), 3 P3_0(/TRAO) (io), 4 P4_2/VREF (in), 5 MODE (in), 6 P4_3(/XCIN) (in), 7 P4_4(/XCOUT), 8 ~{RESET} (in), 9 P4_7/XOUT, 10 VSS/AVSS (power), 11 P4_6/XIN (in), 12 VCC/AVCC (power), 13 P3_7/SDA/SSO/TRAO(/RXD2/SCL2/TXD2/SDA2) (io), 14 P3_5/SCL/SSCK(/CLK2/TRCIOD) (io), 15 P3_4/IVREF3/SSI(/RXD2/SCL2/TXD2/SDA2/TRCIOC) (io), 16 P3_3/IVCMP3/~{INT3}/~{SCS}(/~{CTS2}/~{RTS2}/TRCCLK) (io), 17 P2_7(/TRDIOD1) (io), 18 P2_6(/TRDIOC1) (io), 19 P2_5(/TRDIOB1) (io), 20 P2_4(/TRDIOA1) (io), 21 P2_3(/TRDIOD0) (io), 22 P2_2(/TRCIOD/TRDIOB0) (io), 23 P2_1(/TRCIOC/TRDIOC0) (io), 24 P2_0(/~{INT1}/TRCIOB/TRDIOA0/TRDCLK) (io), 25 P3_6(/~{INT1}) (io), 26 P3_1(/TRBO) (io), 27 P6_7(/~{INT3}/TRCIOD) (io), 28 P6_6/~{INT2}(/TXD2/SDA2/TRCIOC) (io), 29 P6_5/~{INT4}(/CLK1/CLK2/TRCIOB) (io), 30 P4_5/~{ADTRG}/~{INT0}(/RXD2/SCL2) (io), 31 P1_7/IVCMP1/~{INT1}(/TRAIO) (io), 32 P1_6/LVCOUT2/IVREF1(/CLK0) (io), 33 P1_5(/~{INT1}/RXD0/TRAIO) (io), 34 P1_4(/TXD0/TRCCLK) (io), 35 P1_3/AN11/LVCOUT1/~{Kl3}/TRBO(/TRCIOC) (io), 36 P1_2/AN10/LVREF/~{Kl2}(/TRCIOB) (io), 37 P1_1/AN9/LVCMP2/~{KI1}(/TRCIOA/TRCTRG) (io), 38 P1_0/AN8/LVCMP1/~{KI0}(/TRCIOD) (io), 39 P0_7/AN0/DA1(/TRCIOC) (io), 40 P0_6/AN1/DA0(/TRCIOD) (io), 41 P0_5/AN2(/TRCIOB) (io), 42 P0_4/AN3/TREO(/TRCIOB) (io), 43 P0_3/AN4(/CLK1/TRCIOB) (io), 44 P0_2/AN5(/RXD1/TRCIOA/TRCTRG) (io), 45 P0_1/AN6(/TXD1/TRCIOA/TRCTRG) (io), 46 P0_0/AN7(/TRCIOA/TRCTRG) (io), 47 P6_4(/RXD1) (io), 48 P6_3(/TXD1) (io), 49 P6_2(/CLK1) (io), 50 P6_1 (io), 51 P6_0(/TREO) (io), 52 P5_7 (io)

## R5F2135ACDFP
designator U?
R8C/35C Group Single Chip 16-Bit CMOS MCU, 96K + 4K ROM, 8K RAM, D Version; Published: 17-Feb-2010; DatasheetVersion: Rev.1.00, Dec-2009; PackageVersion: Nov-2007; PackageReference: PLQP0052JA-A; Publisher: Altium Limited; PackageDescription: 52-Pin Plastic Low Profile QFP, 10 x 10 x 1.4 mm Body, 0.65 mm Pitch; Code_JEITA: P-LQFP52-10x10-0.65; ComponentLink1Description: Manufacturer Link; ComponentLink1URL: http://sg.renesas.com/fmwk.jsp?cnt=r8c_family_landing.jsp&fp=/products/mpumcu/r8c_family/; ComponentLink2Description: Datasheet; ComponentLink2URL: http://documentation.renesas.com/eng/products/mpumcu/rej09b0567_r8c35chm.pdf; ComponentLink3Description: Packaging Specification; ComponentLink3URL: http://sg.renesas.com/media/products/common_info/package/pdf/ic/code/plqp0052ja_a.pdf
footprint PLQP0052JA-A_N (QFP, 52-Leads, Body 10x10mm, Pitch 0.65mm, IPC Medium Density)
footprint PLQP0052JA-A_L (QFP, 52-Leads, Body 10x10mm, Pitch 0.65mm, IPC High Density)
footprint PLQP0052JA-A_M (QFP, 52-Leads, Body 10x10mm, Pitch 0.65mm, IPC Low Density)
pins: 1 P5_6(/TRAO) (io), 2 P3_2(/~{INT1}/~{INT2}/TRAIO) (io), 3 P3_0(/TRAO) (io), 4 P4_2/VREF (in), 5 MODE (in), 6 P4_3(/XCIN) (in), 7 P4_4(/XCOUT), 8 ~{RESET} (in), 9 P4_7/XOUT, 10 VSS/AVSS (power), 11 P4_6/XIN (in), 12 VCC/AVCC (power), 13 P3_7/SDA/SSO/TRAO(/RXD2/SCL2/TXD2/SDA2) (io), 14 P3_5/SCL/SSCK(/CLK2/TRCIOD) (io), 15 P3_4/IVREF3/SSI(/RXD2/SCL2/TXD2/SDA2/TRCIOC) (io), 16 P3_3/IVCMP3/~{INT3}/~{SCS}(/~{CTS2}/~{RTS2}/TRCCLK) (io), 17 P2_7(/TRDIOD1) (io), 18 P2_6(/TRDIOC1) (io), 19 P2_5(/TRDIOB1) (io), 20 P2_4(/TRDIOA1) (io), 21 P2_3(/TRDIOD0) (io), 22 P2_2(/TRCIOD/TRDIOB0) (io), 23 P2_1(/TRCIOC/TRDIOC0) (io), 24 P2_0(/~{INT1}/TRCIOB/TRDIOA0/TRDCLK) (io), 25 P3_6(/~{INT1}) (io), 26 P3_1(/TRBO) (io), 27 P6_7(/~{INT3}/TRCIOD) (io), 28 P6_6/~{INT2}(/TXD2/SDA2/TRCIOC) (io), 29 P6_5/~{INT4}(/CLK1/CLK2/TRCIOB) (io), 30 P4_5/~{ADTRG}/~{INT0}(/RXD2/SCL2) (io), 31 P1_7/IVCMP1/~{INT1}(/TRAIO) (io), 32 P1_6/LVCOUT2/IVREF1(/CLK0) (io), 33 P1_5(/~{INT1}/RXD0/TRAIO) (io), 34 P1_4(/TXD0/TRCCLK) (io), 35 P1_3/AN11/~{Kl3}/TRBO(/TRCIOC) (io), 36 P1_2/AN10/~{Kl2}(/TRCIOB) (io), 37 P1_1/AN9/~{KI1}(/TRCIOA/TRCTRG) (io), 38 P1_0/AN8/~{KI0}(/TRCIOD) (io), 39 P0_7/AN0/DA1(/TRCIOC) (io), 40 P0_6/AN1/DA0(/TRCIOD) (io), 41 P0_5/AN2(/TRCIOB) (io), 42 P0_4/AN3/TREO(/TRCIOB) (io), 43 P0_3/AN4(/CLK1/TRCIOB) (io), 44 P0_2/AN5(/RXD1/TRCIOA/TRCTRG) (io), 45 P0_1/AN6(/TXD1/TRCIOA/TRCTRG) (io), 46 P0_0/AN7(/TRCIOA/TRCTRG) (io), 47 P6_4(/RXD1) (io), 48 P6_3(/TXD1) (io), 49 P6_2(/CLK1) (io), 50 P6_1 (io), 51 P6_0(/TREO) (io), 52 P5_7 (io)

## R5F2135ACNFP
designator U?
R8C/35C Group Single Chip 16-Bit CMOS MCU, 96K + 4K ROM, 8K RAM, N Version; Published: 17-Feb-2010; DatasheetVersion: Rev.1.00, Dec-2009; PackageVersion: Nov-2007; PackageReference: PLQP0052JA-A; Publisher: Altium Limited; PackageDescription: 52-Pin Plastic Low Profile QFP, 10 x 10 x 1.4 mm Body, 0.65 mm Pitch; Code_JEITA: P-LQFP52-10x10-0.65; ComponentLink1Description: Manufacturer Link; ComponentLink1URL: http://sg.renesas.com/fmwk.jsp?cnt=r8c_family_landing.jsp&fp=/products/mpumcu/r8c_family/; ComponentLink2Description: Datasheet; ComponentLink2URL: http://documentation.renesas.com/eng/products/mpumcu/rej09b0567_r8c35chm.pdf; ComponentLink3Description: Packaging Specification; ComponentLink3URL: http://sg.renesas.com/media/products/common_info/package/pdf/ic/code/plqp0052ja_a.pdf
footprint PLQP0052JA-A_N (QFP, 52-Leads, Body 10x10mm, Pitch 0.65mm, IPC Medium Density)
footprint PLQP0052JA-A_L (QFP, 52-Leads, Body 10x10mm, Pitch 0.65mm, IPC High Density)
footprint PLQP0052JA-A_M (QFP, 52-Leads, Body 10x10mm, Pitch 0.65mm, IPC Low Density)
pins: 1 P5_6(/TRAO) (io), 2 P3_2(/~{INT1}/~{INT2}/TRAIO) (io), 3 P3_0(/TRAO) (io), 4 P4_2/VREF (in), 5 MODE (in), 6 P4_3(/XCIN) (in), 7 P4_4(/XCOUT), 8 ~{RESET} (in), 9 P4_7/XOUT, 10 VSS/AVSS (power), 11 P4_6/XIN (in), 12 VCC/AVCC (power), 13 P3_7/SDA/SSO/TRAO(/RXD2/SCL2/TXD2/SDA2) (io), 14 P3_5/SCL/SSCK(/CLK2/TRCIOD) (io), 15 P3_4/IVREF3/SSI(/RXD2/SCL2/TXD2/SDA2/TRCIOC) (io), 16 P3_3/IVCMP3/~{INT3}/~{SCS}(/~{CTS2}/~{RTS2}/TRCCLK) (io), 17 P2_7(/TRDIOD1) (io), 18 P2_6(/TRDIOC1) (io), 19 P2_5(/TRDIOB1) (io), 20 P2_4(/TRDIOA1) (io), 21 P2_3(/TRDIOD0) (io), 22 P2_2(/TRCIOD/TRDIOB0) (io), 23 P2_1(/TRCIOC/TRDIOC0) (io), 24 P2_0(/~{INT1}/TRCIOB/TRDIOA0/TRDCLK) (io), 25 P3_6(/~{INT1}) (io), 26 P3_1(/TRBO) (io), 27 P6_7(/~{INT3}/TRCIOD) (io), 28 P6_6/~{INT2}(/TXD2/SDA2/TRCIOC) (io), 29 P6_5/~{INT4}(/CLK1/CLK2/TRCIOB) (io), 30 P4_5/~{ADTRG}/~{INT0}(/RXD2/SCL2) (io), 31 P1_7/IVCMP1/~{INT1}(/TRAIO) (io), 32 P1_6/LVCOUT2/IVREF1(/CLK0) (io), 33 P1_5(/~{INT1}/RXD0/TRAIO) (io), 34 P1_4(/TXD0/TRCCLK) (io), 35 P1_3/AN11/~{Kl3}/TRBO(/TRCIOC) (io), 36 P1_2/AN10/~{Kl2}(/TRCIOB) (io), 37 P1_1/AN9/~{KI1}(/TRCIOA/TRCTRG) (io), 38 P1_0/AN8/~{KI0}(/TRCIOD) (io), 39 P0_7/AN0/DA1(/TRCIOC) (io), 40 P0_6/AN1/DA0(/TRCIOD) (io), 41 P0_5/AN2(/TRCIOB) (io), 42 P0_4/AN3/TREO(/TRCIOB) (io), 43 P0_3/AN4(/CLK1/TRCIOB) (io), 44 P0_2/AN5(/RXD1/TRCIOA/TRCTRG) (io), 45 P0_1/AN6(/TXD1/TRCIOA/TRCTRG) (io), 46 P0_0/AN7(/TRCIOA/TRCTRG) (io), 47 P6_4(/RXD1) (io), 48 P6_3(/TXD1) (io), 49 P6_2(/CLK1) (io), 50 P6_1 (io), 51 P6_0(/TREO) (io), 52 P5_7 (io)

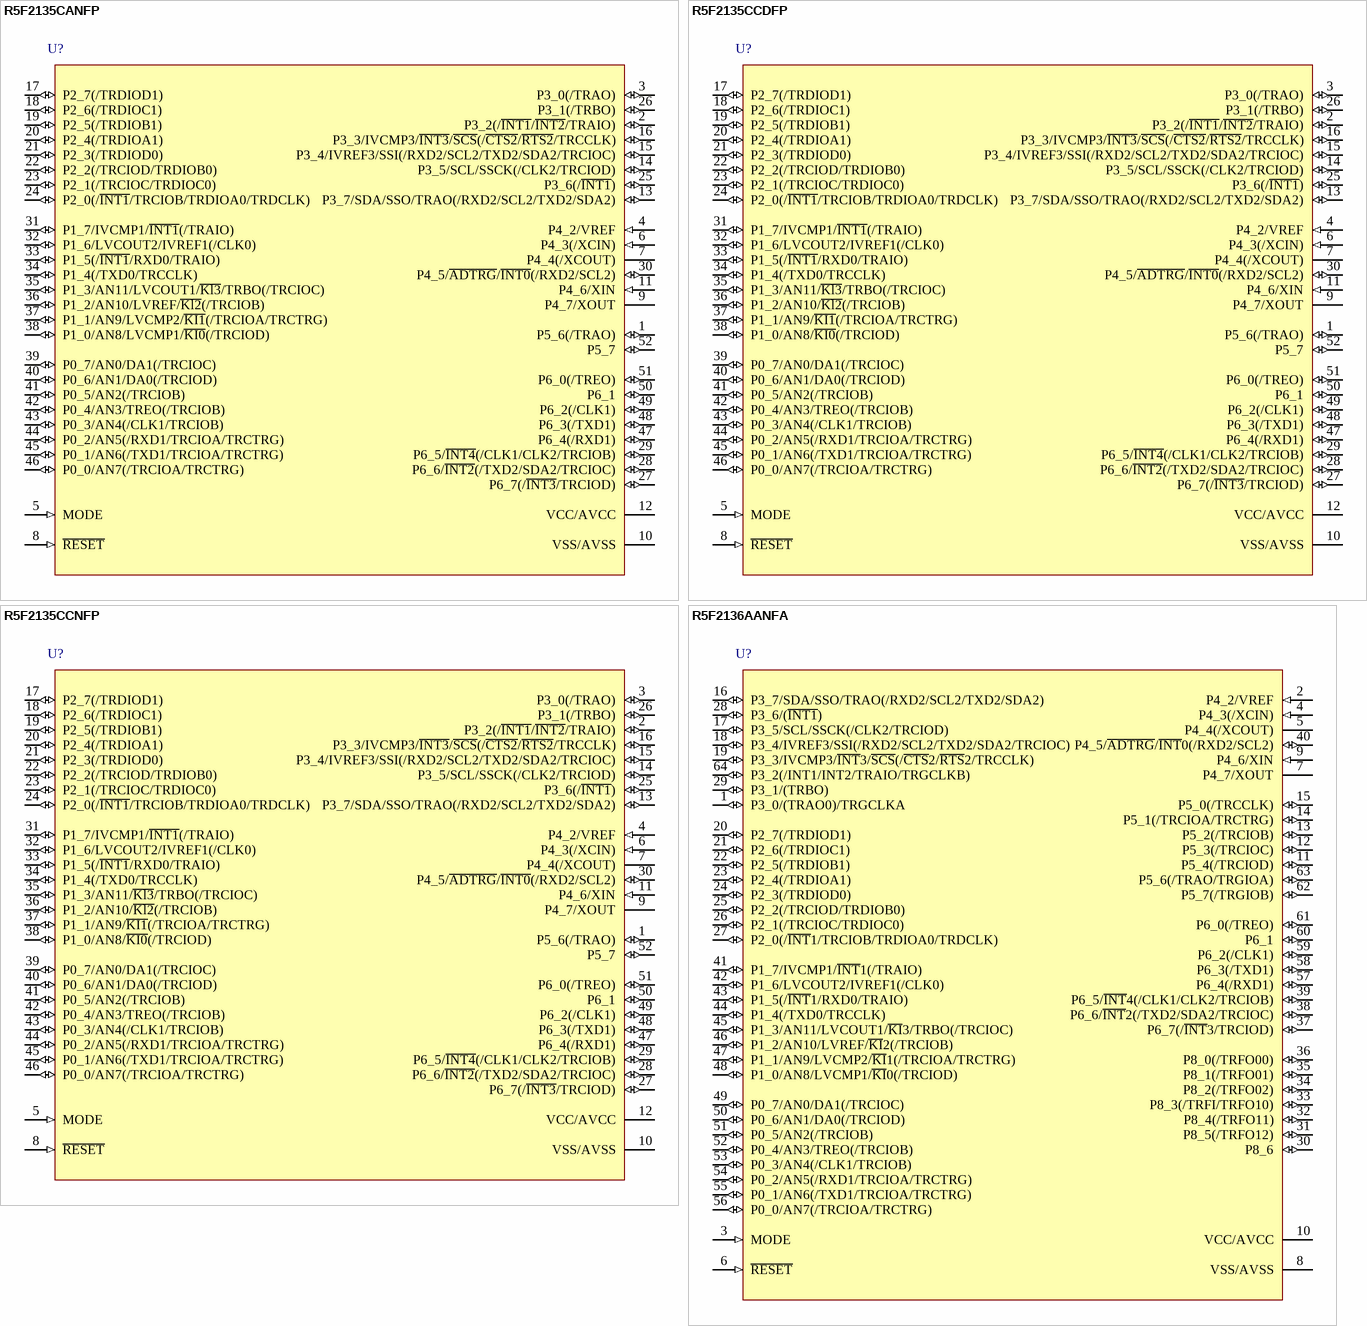
[diagram p63: symbols R5F2135CANFP to R5F2136AANFA]

## R5F2135CANFP
designator U?
R8C/35A Group Single Chip 16-Bit CMOS MCU, 128K + 4K ROM, 10K RAM, N Version; Published: 17-Feb-2010; DatasheetVersion: Rev.1.00, Sep-2009; PackageVersion: Nov-2007; PackageReference: PLQP0052JA-A; Publisher: Altium Limited; PackageDescription: 52-Pin Plastic Low Profile QFP, 10 x 10 x 1.4 mm Body, 0.65 mm Pitch; Code_JEITA: P-LQFP52-10x10-0.65; ComponentLink1Description: Manufacturer Link; ComponentLink1URL: http://sg.renesas.com/fmwk.jsp?cnt=r8c_family_landing.jsp&fp=/products/mpumcu/r8c_family/; ComponentLink2Description: Datasheet; ComponentLink2URL: http://documentation.renesas.com/eng/products/mpumcu/rej03b0225_r8c35ads.pdf; ComponentLink3Description: Packaging Specification; ComponentLink3URL: http://sg.renesas.com/media/products/common_info/package/pdf/ic/code/plqp0052ja_a.pdf
footprint PLQP0052JA-A_N (QFP, 52-Leads, Body 10x10mm, Pitch 0.65mm, IPC Medium Density)
footprint PLQP0052JA-A_L (QFP, 52-Leads, Body 10x10mm, Pitch 0.65mm, IPC High Density)
footprint PLQP0052JA-A_M (QFP, 52-Leads, Body 10x10mm, Pitch 0.65mm, IPC Low Density)
pins: 1 P5_6(/TRAO) (io), 2 P3_2(/~{INT1}/~{INT2}/TRAIO) (io), 3 P3_0(/TRAO) (io), 4 P4_2/VREF (in), 5 MODE (in), 6 P4_3(/XCIN) (in), 7 P4_4(/XCOUT), 8 ~{RESET} (in), 9 P4_7/XOUT, 10 VSS/AVSS (power), 11 P4_6/XIN (in), 12 VCC/AVCC (power), 13 P3_7/SDA/SSO/TRAO(/RXD2/SCL2/TXD2/SDA2) (io), 14 P3_5/SCL/SSCK(/CLK2/TRCIOD) (io), 15 P3_4/IVREF3/SSI(/RXD2/SCL2/TXD2/SDA2/TRCIOC) (io), 16 P3_3/IVCMP3/~{INT3}/~{SCS}(/~{CTS2}/~{RTS2}/TRCCLK) (io), 17 P2_7(/TRDIOD1) (io), 18 P2_6(/TRDIOC1) (io), 19 P2_5(/TRDIOB1) (io), 20 P2_4(/TRDIOA1) (io), 21 P2_3(/TRDIOD0) (io), 22 P2_2(/TRCIOD/TRDIOB0) (io), 23 P2_1(/TRCIOC/TRDIOC0) (io), 24 P2_0(/~{INT1}/TRCIOB/TRDIOA0/TRDCLK) (io), 25 P3_6(/~{INT1}) (io), 26 P3_1(/TRBO) (io), 27 P6_7(/~{INT3}/TRCIOD) (io), 28 P6_6/~{INT2}(/TXD2/SDA2/TRCIOC) (io), 29 P6_5/~{INT4}(/CLK1/CLK2/TRCIOB) (io), 30 P4_5/~{ADTRG}/~{INT0}(/RXD2/SCL2) (io), 31 P1_7/IVCMP1/~{INT1}(/TRAIO) (io), 32 P1_6/LVCOUT2/IVREF1(/CLK0) (io), 33 P1_5(/~{INT1}/RXD0/TRAIO) (io), 34 P1_4(/TXD0/TRCCLK) (io), 35 P1_3/AN11/LVCOUT1/~{Kl3}/TRBO(/TRCIOC) (io), 36 P1_2/AN10/LVREF/~{Kl2}(/TRCIOB) (io), 37 P1_1/AN9/LVCMP2/~{KI1}(/TRCIOA/TRCTRG) (io), 38 P1_0/AN8/LVCMP1/~{KI0}(/TRCIOD) (io), 39 P0_7/AN0/DA1(/TRCIOC) (io), 40 P0_6/AN1/DA0(/TRCIOD) (io), 41 P0_5/AN2(/TRCIOB) (io), 42 P0_4/AN3/TREO(/TRCIOB) (io), 43 P0_3/AN4(/CLK1/TRCIOB) (io), 44 P0_2/AN5(/RXD1/TRCIOA/TRCTRG) (io), 45 P0_1/AN6(/TXD1/TRCIOA/TRCTRG) (io), 46 P0_0/AN7(/TRCIOA/TRCTRG) (io), 47 P6_4(/RXD1) (io), 48 P6_3(/TXD1) (io), 49 P6_2(/CLK1) (io), 50 P6_1 (io), 51 P6_0(/TREO) (io), 52 P5_7 (io)

## R5F2135CCDFP
designator U?
R8C/35C Group Single Chip 16-Bit CMOS MCU, 128K + 4K ROM, 10K RAM, D Version; Published: 17-Feb-2010; DatasheetVersion: Rev.1.00, Dec-2009; PackageVersion: Nov-2007; PackageReference: PLQP0052JA-A; Publisher: Altium Limited; PackageDescription: 52-Pin Plastic Low Profile QFP, 10 x 10 x 1.4 mm Body, 0.65 mm Pitch; Code_JEITA: P-LQFP52-10x10-0.65; ComponentLink1Description: Manufacturer Link; ComponentLink1URL: http://sg.renesas.com/fmwk.jsp?cnt=r8c_family_landing.jsp&fp=/products/mpumcu/r8c_family/; ComponentLink2Description: Datasheet; ComponentLink2URL: http://documentation.renesas.com/eng/products/mpumcu/rej09b0567_r8c35chm.pdf; ComponentLink3Description: Packaging Specification; ComponentLink3URL: http://sg.renesas.com/media/products/common_info/package/pdf/ic/code/plqp0052ja_a.pdf
footprint PLQP0052JA-A_N (QFP, 52-Leads, Body 10x10mm, Pitch 0.65mm, IPC Medium Density)
footprint PLQP0052JA-A_L (QFP, 52-Leads, Body 10x10mm, Pitch 0.65mm, IPC High Density)
footprint PLQP0052JA-A_M (QFP, 52-Leads, Body 10x10mm, Pitch 0.65mm, IPC Low Density)
pins: 1 P5_6(/TRAO) (io), 2 P3_2(/~{INT1}/~{INT2}/TRAIO) (io), 3 P3_0(/TRAO) (io), 4 P4_2/VREF (in), 5 MODE (in), 6 P4_3(/XCIN) (in), 7 P4_4(/XCOUT), 8 ~{RESET} (in), 9 P4_7/XOUT, 10 VSS/AVSS (power), 11 P4_6/XIN (in), 12 VCC/AVCC (power), 13 P3_7/SDA/SSO/TRAO(/RXD2/SCL2/TXD2/SDA2) (io), 14 P3_5/SCL/SSCK(/CLK2/TRCIOD) (io), 15 P3_4/IVREF3/SSI(/RXD2/SCL2/TXD2/SDA2/TRCIOC) (io), 16 P3_3/IVCMP3/~{INT3}/~{SCS}(/~{CTS2}/~{RTS2}/TRCCLK) (io), 17 P2_7(/TRDIOD1) (io), 18 P2_6(/TRDIOC1) (io), 19 P2_5(/TRDIOB1) (io), 20 P2_4(/TRDIOA1) (io), 21 P2_3(/TRDIOD0) (io), 22 P2_2(/TRCIOD/TRDIOB0) (io), 23 P2_1(/TRCIOC/TRDIOC0) (io), 24 P2_0(/~{INT1}/TRCIOB/TRDIOA0/TRDCLK) (io), 25 P3_6(/~{INT1}) (io), 26 P3_1(/TRBO) (io), 27 P6_7(/~{INT3}/TRCIOD) (io), 28 P6_6/~{INT2}(/TXD2/SDA2/TRCIOC) (io), 29 P6_5/~{INT4}(/CLK1/CLK2/TRCIOB) (io), 30 P4_5/~{ADTRG}/~{INT0}(/RXD2/SCL2) (io), 31 P1_7/IVCMP1/~{INT1}(/TRAIO) (io), 32 P1_6/LVCOUT2/IVREF1(/CLK0) (io), 33 P1_5(/~{INT1}/RXD0/TRAIO) (io), 34 P1_4(/TXD0/TRCCLK) (io), 35 P1_3/AN11/~{Kl3}/TRBO(/TRCIOC) (io), 36 P1_2/AN10/~{Kl2}(/TRCIOB) (io), 37 P1_1/AN9/~{KI1}(/TRCIOA/TRCTRG) (io), 38 P1_0/AN8/~{KI0}(/TRCIOD) (io), 39 P0_7/AN0/DA1(/TRCIOC) (io), 40 P0_6/AN1/DA0(/TRCIOD) (io), 41 P0_5/AN2(/TRCIOB) (io), 42 P0_4/AN3/TREO(/TRCIOB) (io), 43 P0_3/AN4(/CLK1/TRCIOB) (io), 44 P0_2/AN5(/RXD1/TRCIOA/TRCTRG) (io), 45 P0_1/AN6(/TXD1/TRCIOA/TRCTRG) (io), 46 P0_0/AN7(/TRCIOA/TRCTRG) (io), 47 P6_4(/RXD1) (io), 48 P6_3(/TXD1) (io), 49 P6_2(/CLK1) (io), 50 P6_1 (io), 51 P6_0(/TREO) (io), 52 P5_7 (io)

## R5F2135CCNFP
designator U?
R8C/35C Group Single Chip 16-Bit CMOS MCU, 128K + 4K ROM, 10K RAM, N Version; Published: 17-Feb-2010; DatasheetVersion: Rev.1.00, Dec-2009; PackageVersion: Nov-2007; PackageReference: PLQP0052JA-A; Publisher: Altium Limited; PackageDescription: 52-Pin Plastic Low Profile QFP, 10 x 10 x 1.4 mm Body, 0.65 mm Pitch; Code_JEITA: P-LQFP52-10x10-0.65; ComponentLink1Description: Manufacturer Link; ComponentLink1URL: http://sg.renesas.com/fmwk.jsp?cnt=r8c_family_landing.jsp&fp=/products/mpumcu/r8c_family/; ComponentLink2Description: Datasheet; ComponentLink2URL: http://documentation.renesas.com/eng/products/mpumcu/rej09b0567_r8c35chm.pdf; ComponentLink3Description: Packaging Specification; ComponentLink3URL: http://sg.renesas.com/media/products/common_info/package/pdf/ic/code/plqp0052ja_a.pdf
footprint PLQP0052JA-A_N (QFP, 52-Leads, Body 10x10mm, Pitch 0.65mm, IPC Medium Density)
footprint PLQP0052JA-A_L (QFP, 52-Leads, Body 10x10mm, Pitch 0.65mm, IPC High Density)
footprint PLQP0052JA-A_M (QFP, 52-Leads, Body 10x10mm, Pitch 0.65mm, IPC Low Density)
pins: 1 P5_6(/TRAO) (io), 2 P3_2(/~{INT1}/~{INT2}/TRAIO) (io), 3 P3_0(/TRAO) (io), 4 P4_2/VREF (in), 5 MODE (in), 6 P4_3(/XCIN) (in), 7 P4_4(/XCOUT), 8 ~{RESET} (in), 9 P4_7/XOUT, 10 VSS/AVSS (power), 11 P4_6/XIN (in), 12 VCC/AVCC (power), 13 P3_7/SDA/SSO/TRAO(/RXD2/SCL2/TXD2/SDA2) (io), 14 P3_5/SCL/SSCK(/CLK2/TRCIOD) (io), 15 P3_4/IVREF3/SSI(/RXD2/SCL2/TXD2/SDA2/TRCIOC) (io), 16 P3_3/IVCMP3/~{INT3}/~{SCS}(/~{CTS2}/~{RTS2}/TRCCLK) (io), 17 P2_7(/TRDIOD1) (io), 18 P2_6(/TRDIOC1) (io), 19 P2_5(/TRDIOB1) (io), 20 P2_4(/TRDIOA1) (io), 21 P2_3(/TRDIOD0) (io), 22 P2_2(/TRCIOD/TRDIOB0) (io), 23 P2_1(/TRCIOC/TRDIOC0) (io), 24 P2_0(/~{INT1}/TRCIOB/TRDIOA0/TRDCLK) (io), 25 P3_6(/~{INT1}) (io), 26 P3_1(/TRBO) (io), 27 P6_7(/~{INT3}/TRCIOD) (io), 28 P6_6/~{INT2}(/TXD2/SDA2/TRCIOC) (io), 29 P6_5/~{INT4}(/CLK1/CLK2/TRCIOB) (io), 30 P4_5/~{ADTRG}/~{INT0}(/RXD2/SCL2) (io), 31 P1_7/IVCMP1/~{INT1}(/TRAIO) (io), 32 P1_6/LVCOUT2/IVREF1(/CLK0) (io), 33 P1_5(/~{INT1}/RXD0/TRAIO) (io), 34 P1_4(/TXD0/TRCCLK) (io), 35 P1_3/AN11/~{Kl3}/TRBO(/TRCIOC) (io), 36 P1_2/AN10/~{Kl2}(/TRCIOB) (io), 37 P1_1/AN9/~{KI1}(/TRCIOA/TRCTRG) (io), 38 P1_0/AN8/~{KI0}(/TRCIOD) (io), 39 P0_7/AN0/DA1(/TRCIOC) (io), 40 P0_6/AN1/DA0(/TRCIOD) (io), 41 P0_5/AN2(/TRCIOB) (io), 42 P0_4/AN3/TREO(/TRCIOB) (io), 43 P0_3/AN4(/CLK1/TRCIOB) (io), 44 P0_2/AN5(/RXD1/TRCIOA/TRCTRG) (io), 45 P0_1/AN6(/TXD1/TRCIOA/TRCTRG) (io), 46 P0_0/AN7(/TRCIOA/TRCTRG) (io), 47 P6_4(/RXD1) (io), 48 P6_3(/TXD1) (io), 49 P6_2(/CLK1) (io), 50 P6_1 (io), 51 P6_0(/TREO) (io), 52 P5_7 (io)

## R5F2136AANFA
designator U?
R8C/36A Group Single Chip 16-Bit CMOS MCU, 96K + 4K ROM, 8K RAM, N Version; Published: 17-Feb-2010; DatasheetVersion: Rev.1.10, Sep-2009; PackageVersion: Oct-2005; PackageReference: PLQP0064GA-A; Publisher: Altium Limited; PackageDescription: 64-Pin Plastic Low Profile QFP, 14 x 14 x 1.4 mm Body, 0.8 mm Pitch; Code_JEITA: P-LQFP64-14x14-0.80; ComponentLink1Description: Manufacturer Link; ComponentLink1URL: http://sg.renesas.com/fmwk.jsp?cnt=r8c_family_landing.jsp&fp=/products/mpumcu/r8c_family/; ComponentLink2Description: Datasheet; ComponentLink2URL: http://documentation.renesas.com/eng/products/mpumcu/rej03b0265_r8c36ads.pdf; ComponentLink3Description: Packaging Specification; ComponentLink3URL: http://sg.renesas.com/media/products/common_info/package/pdf/ic/code/plqp0064ga_a.pdf
footprint PLQP0064GA-A_N (QFP, 64-Leads, Body 14x14mm, Pitch 0.8mm, IPC Medium Density)
footprint PLQP0064GA-A_L (QFP, 64-Leads, Body 14x14mm, Pitch 0.8mm, IPC High Density)
footprint PLQP0064GA-A_M (QFP, 64-Leads, Body 14x14mm, Pitch 0.8mm, IPC Low Density)
pins: 1 P3_0/(TRAO0)/TRGCLKA (io), 2 P4_2/VREF (in), 3 MODE (in), 4 P4_3(/XCIN) (in), 5 P4_4(/XCOUT), 6 ~{RESET} (in), 7 P4_7/XOUT, 8 VSS/AVSS (power), 9 P4_6/XIN (in), 10 VCC/AVCC (power), 11 P5_4(/TRCIOD) (io), 12 P5_3(/TRCIOC) (io), 13 P5_2(/TRCIOB) (io), 14 P5_1(/TRCIOA/TRCTRG) (io), 15 P5_0(/TRCCLK) (io), 16 P3_7/SDA/SSO/TRAO(/RXD2/SCL2/TXD2/SDA2) (io), 17 P3_5/SCL/SSCK(/CLK2/TRCIOD) (io), 18 P3_4/IVREF3/SSI(/RXD2/SCL2/TXD2/SDA2/TRCIOC) (io), 19 P3_3/IVCMP3/~{INT}3/~{SCS}(/~{CTS}2/~{RTS}2/TRCCLK) (io), 20 P2_7(/TRDIOD1) (io), 21 P2_6(/TRDIOC1) (io), 22 P2_5(/TRDIOB1) (io), 23 P2_4(/TRDIOA1) (io), 24 P2_3(/TRDIOD0) (io), 25 P2_2(/TRCIOD/TRDIOB0) (io), 26 P2_1(/TRCIOC/TRDIOC0) (io), 27 P2_0(/~{INT}1/TRCIOB/TRDIOA0/TRDCLK) (io), 28 P3_6/(~{INT1}) (io), 29 P3_1/(TRBO) (io), 30 P8_6 (io), 31 P8_5(/TRFO12) (io), 32 P8_4(/TRFO11) (io), 33 P8_3(/TRFI/TRFO10) (io), 34 P8_2(/TRFO02) (io), 35 P8_1(/TRFO01) (io), 36 P8_0(/TRFO00) (io), 37 P6_7(/~{INT}3/TRCIOD) (io), 38 P6_6/~{INT}2(/TXD2/SDA2/TRCIOC) (io), 39 P6_5/~{INT}4(/CLK1/CLK2/TRCIOB) (io), 40 P4_5/~{ADTRG}/~{INT}0(/RXD2/SCL2) (io), 41 P1_7/IVCMP1/~{INT}1(/TRAIO) (io), 42 P1_6/LVCOUT2/IVREF1(/CLK0) (io), 43 P1_5(/~{INT}1/RXD0/TRAIO) (io), 44 P1_4(/TXD0/TRCCLK) (io), 45 P1_3/AN11/LVCOUT1/~{KI}3/TRBO(/TRCIOC) (io), 46 P1_2/AN10/LVREF/~{KI}2(/TRCIOB) (io), 47 P1_1/AN9/LVCMP2/~{KI}1(/TRCIOA/TRCTRG) (io), 48 P1_0/AN8/LVCMP1/~{KI}0(/TRCIOD) (io), 49 P0_7/AN0/DA1(/TRCIOC) (io), 50 P0_6/AN1/DA0(/TRCIOD) (io), 51 P0_5/AN2(/TRCIOB) (io), 52 P0_4/AN3/TREO(/TRCIOB) (io), 53 P0_3/AN4(/CLK1/TRCIOB) (io), 54 P0_2/AN5(/RXD1/TRCIOA/TRCTRG) (io), 55 P0_1/AN6(/TXD1/TRCIOA/TRCTRG) (io), 56 P0_0/AN7(/TRCIOA/TRCTRG) (io), 57 P6_4(/RXD1) (io), 58 P6_3(/TXD1) (io), 59 P6_2(/CLK1) (io), 60 P6_1 (io), 61 P6_0(/TREO) (io), 62 P5_7(/TRGIOB) (io), 63 P5_6(/TRAO/TRGIOA) (io), 64 P3_2(/INT1/INT2/TRAIO/TRGCLKB) (io)

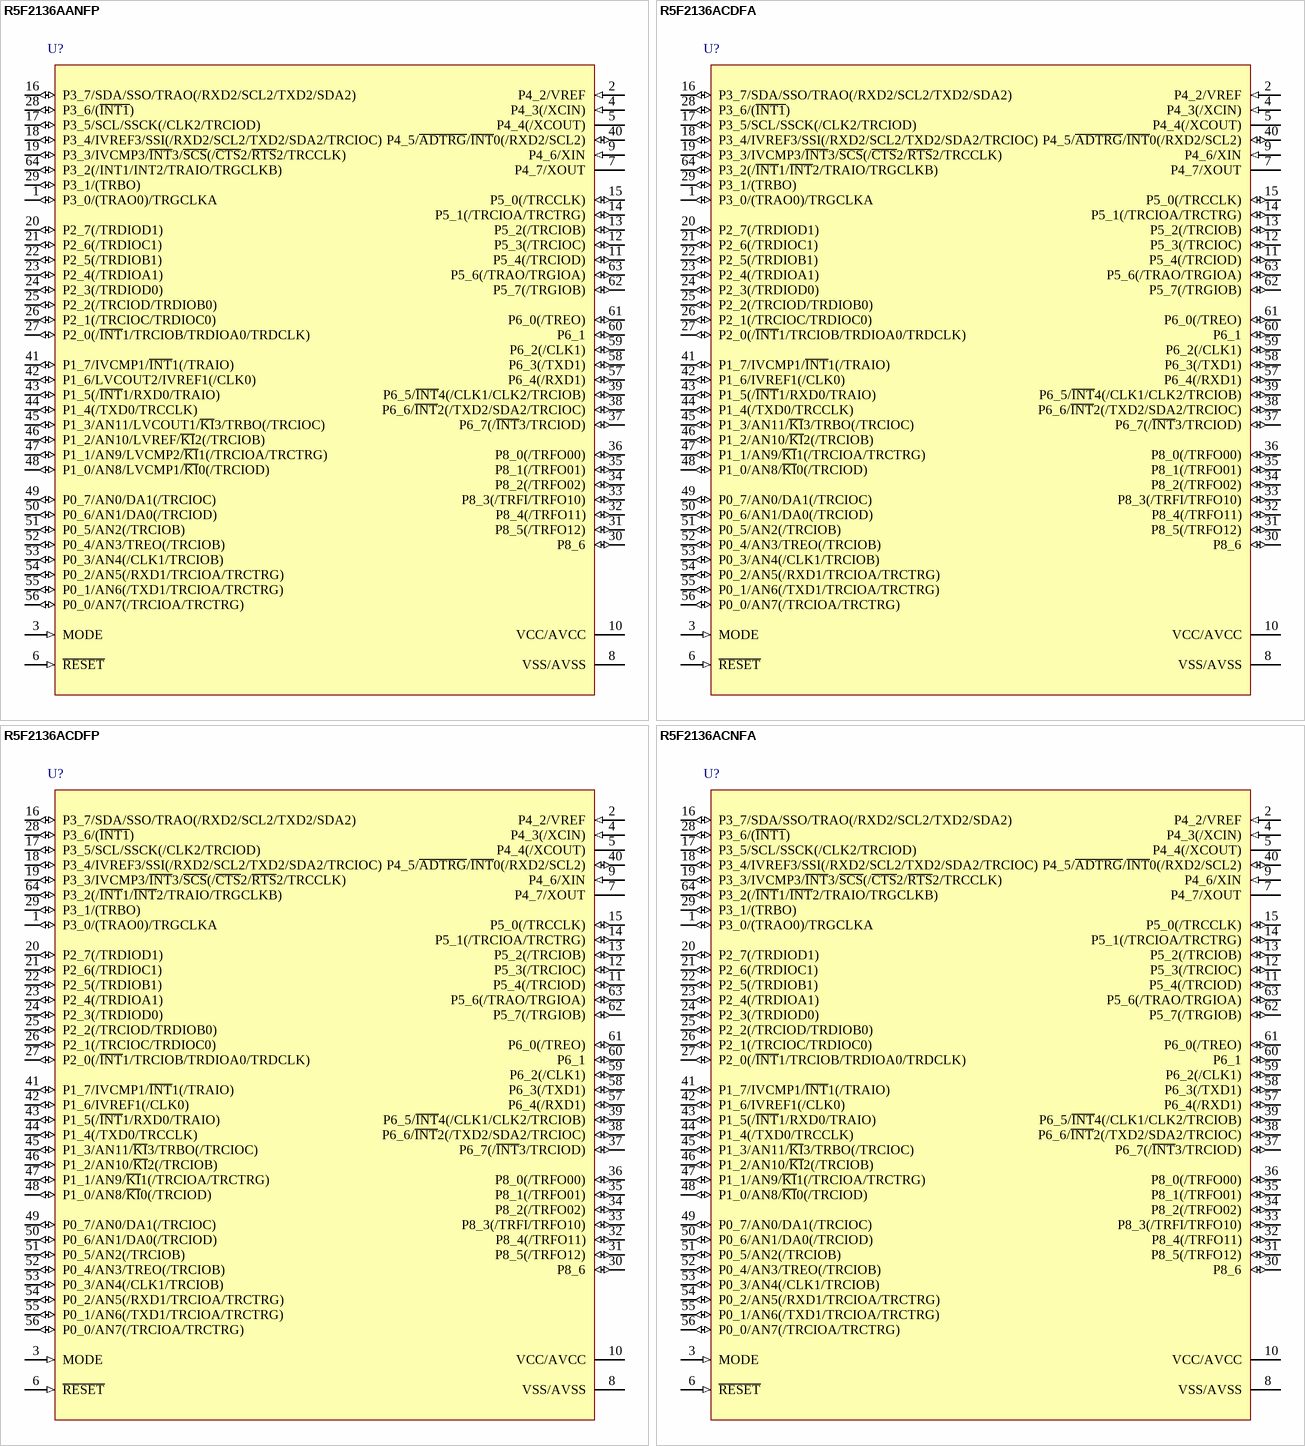
[diagram p64: symbols R5F2136AANFP to R5F2136ACNFA]

## R5F2136AANFP
designator U?
R8C/36A Group Single Chip 16-Bit CMOS MCU, 96K + 4K ROM, 8K RAM, N Version; Published: 17-Feb-2010; DatasheetVersion: Rev.1.10, Sep-2009; PackageVersion: Sep-2005; PackageReference: PLQP0064KB-A; Publisher: Altium Limited; PackageDescription: 64-Pin Plastic Low Profile QFP, 10 x 10 x 1.4 mm Body, 0.5 mm Pitch; Code_JEITA: P-LQFP64-10x10-0.50; Code_IPC: SQFP50P1200X1200-64; ComponentLink1Description: Manufacturer Link; ComponentLink1URL: http://sg.renesas.com/fmwk.jsp?cnt=r8c_family_landing.jsp&fp=/products/mpumcu/r8c_family/; ComponentLink2Description: Datasheet; ComponentLink2URL: http://documentation.renesas.com/eng/products/mpumcu/rej03b0265_r8c36ads.pdf; ComponentLink3Description: Packaging Specification; ComponentLink3URL: http://sg.renesas.com/media/products/common_info/package/pdf/ic/code/plqp0064kb_a.pdf
footprint PLQP0064KB-A_N (Shrink QFP, 64-Leads, Body 10x10mm, Pitch 0.5mm, IPC Medium Density)
footprint PLQP0064KB-A_L (Shrink QFP, 64-Leads, Body 10x10mm, Pitch 0.5mm, IPC High Density)
footprint PLQP0064KB-A_M (Shrink QFP, 64-Leads, Body 10x10mm, Pitch 0.5mm, IPC Low Density)
pins: 1 P3_0/(TRAO0)/TRGCLKA (io), 2 P4_2/VREF (in), 3 MODE (in), 4 P4_3(/XCIN) (in), 5 P4_4(/XCOUT), 6 ~{RESET} (in), 7 P4_7/XOUT, 8 VSS/AVSS (power), 9 P4_6/XIN (in), 10 VCC/AVCC (power), 11 P5_4(/TRCIOD) (io), 12 P5_3(/TRCIOC) (io), 13 P5_2(/TRCIOB) (io), 14 P5_1(/TRCIOA/TRCTRG) (io), 15 P5_0(/TRCCLK) (io), 16 P3_7/SDA/SSO/TRAO(/RXD2/SCL2/TXD2/SDA2) (io), 17 P3_5/SCL/SSCK(/CLK2/TRCIOD) (io), 18 P3_4/IVREF3/SSI(/RXD2/SCL2/TXD2/SDA2/TRCIOC) (io), 19 P3_3/IVCMP3/~{INT}3/~{SCS}(/~{CTS}2/~{RTS}2/TRCCLK) (io), 20 P2_7(/TRDIOD1) (io), 21 P2_6(/TRDIOC1) (io), 22 P2_5(/TRDIOB1) (io), 23 P2_4(/TRDIOA1) (io), 24 P2_3(/TRDIOD0) (io), 25 P2_2(/TRCIOD/TRDIOB0) (io), 26 P2_1(/TRCIOC/TRDIOC0) (io), 27 P2_0(/~{INT}1/TRCIOB/TRDIOA0/TRDCLK) (io), 28 P3_6/(~{INT1}) (io), 29 P3_1/(TRBO) (io), 30 P8_6 (io), 31 P8_5(/TRFO12) (io), 32 P8_4(/TRFO11) (io), 33 P8_3(/TRFI/TRFO10) (io), 34 P8_2(/TRFO02) (io), 35 P8_1(/TRFO01) (io), 36 P8_0(/TRFO00) (io), 37 P6_7(/~{INT}3/TRCIOD) (io), 38 P6_6/~{INT}2(/TXD2/SDA2/TRCIOC) (io), 39 P6_5/~{INT}4(/CLK1/CLK2/TRCIOB) (io), 40 P4_5/~{ADTRG}/~{INT}0(/RXD2/SCL2) (io), 41 P1_7/IVCMP1/~{INT}1(/TRAIO) (io), 42 P1_6/LVCOUT2/IVREF1(/CLK0) (io), 43 P1_5(/~{INT}1/RXD0/TRAIO) (io), 44 P1_4(/TXD0/TRCCLK) (io), 45 P1_3/AN11/LVCOUT1/~{KI}3/TRBO(/TRCIOC) (io), 46 P1_2/AN10/LVREF/~{KI}2(/TRCIOB) (io), 47 P1_1/AN9/LVCMP2/~{KI}1(/TRCIOA/TRCTRG) (io), 48 P1_0/AN8/LVCMP1/~{KI}0(/TRCIOD) (io), 49 P0_7/AN0/DA1(/TRCIOC) (io), 50 P0_6/AN1/DA0(/TRCIOD) (io), 51 P0_5/AN2(/TRCIOB) (io), 52 P0_4/AN3/TREO(/TRCIOB) (io), 53 P0_3/AN4(/CLK1/TRCIOB) (io), 54 P0_2/AN5(/RXD1/TRCIOA/TRCTRG) (io), 55 P0_1/AN6(/TXD1/TRCIOA/TRCTRG) (io), 56 P0_0/AN7(/TRCIOA/TRCTRG) (io), 57 P6_4(/RXD1) (io), 58 P6_3(/TXD1) (io), 59 P6_2(/CLK1) (io), 60 P6_1 (io), 61 P6_0(/TREO) (io), 62 P5_7(/TRGIOB) (io), 63 P5_6(/TRAO/TRGIOA) (io), 64 P3_2(/INT1/INT2/TRAIO/TRGCLKB) (io)